# Altium integrated library Protel DOS Schematic Libraries.IntLib: 1273 symbols (part 1 of 9)
Pins are listed as number, name and electrical type; pins without a type are passive.

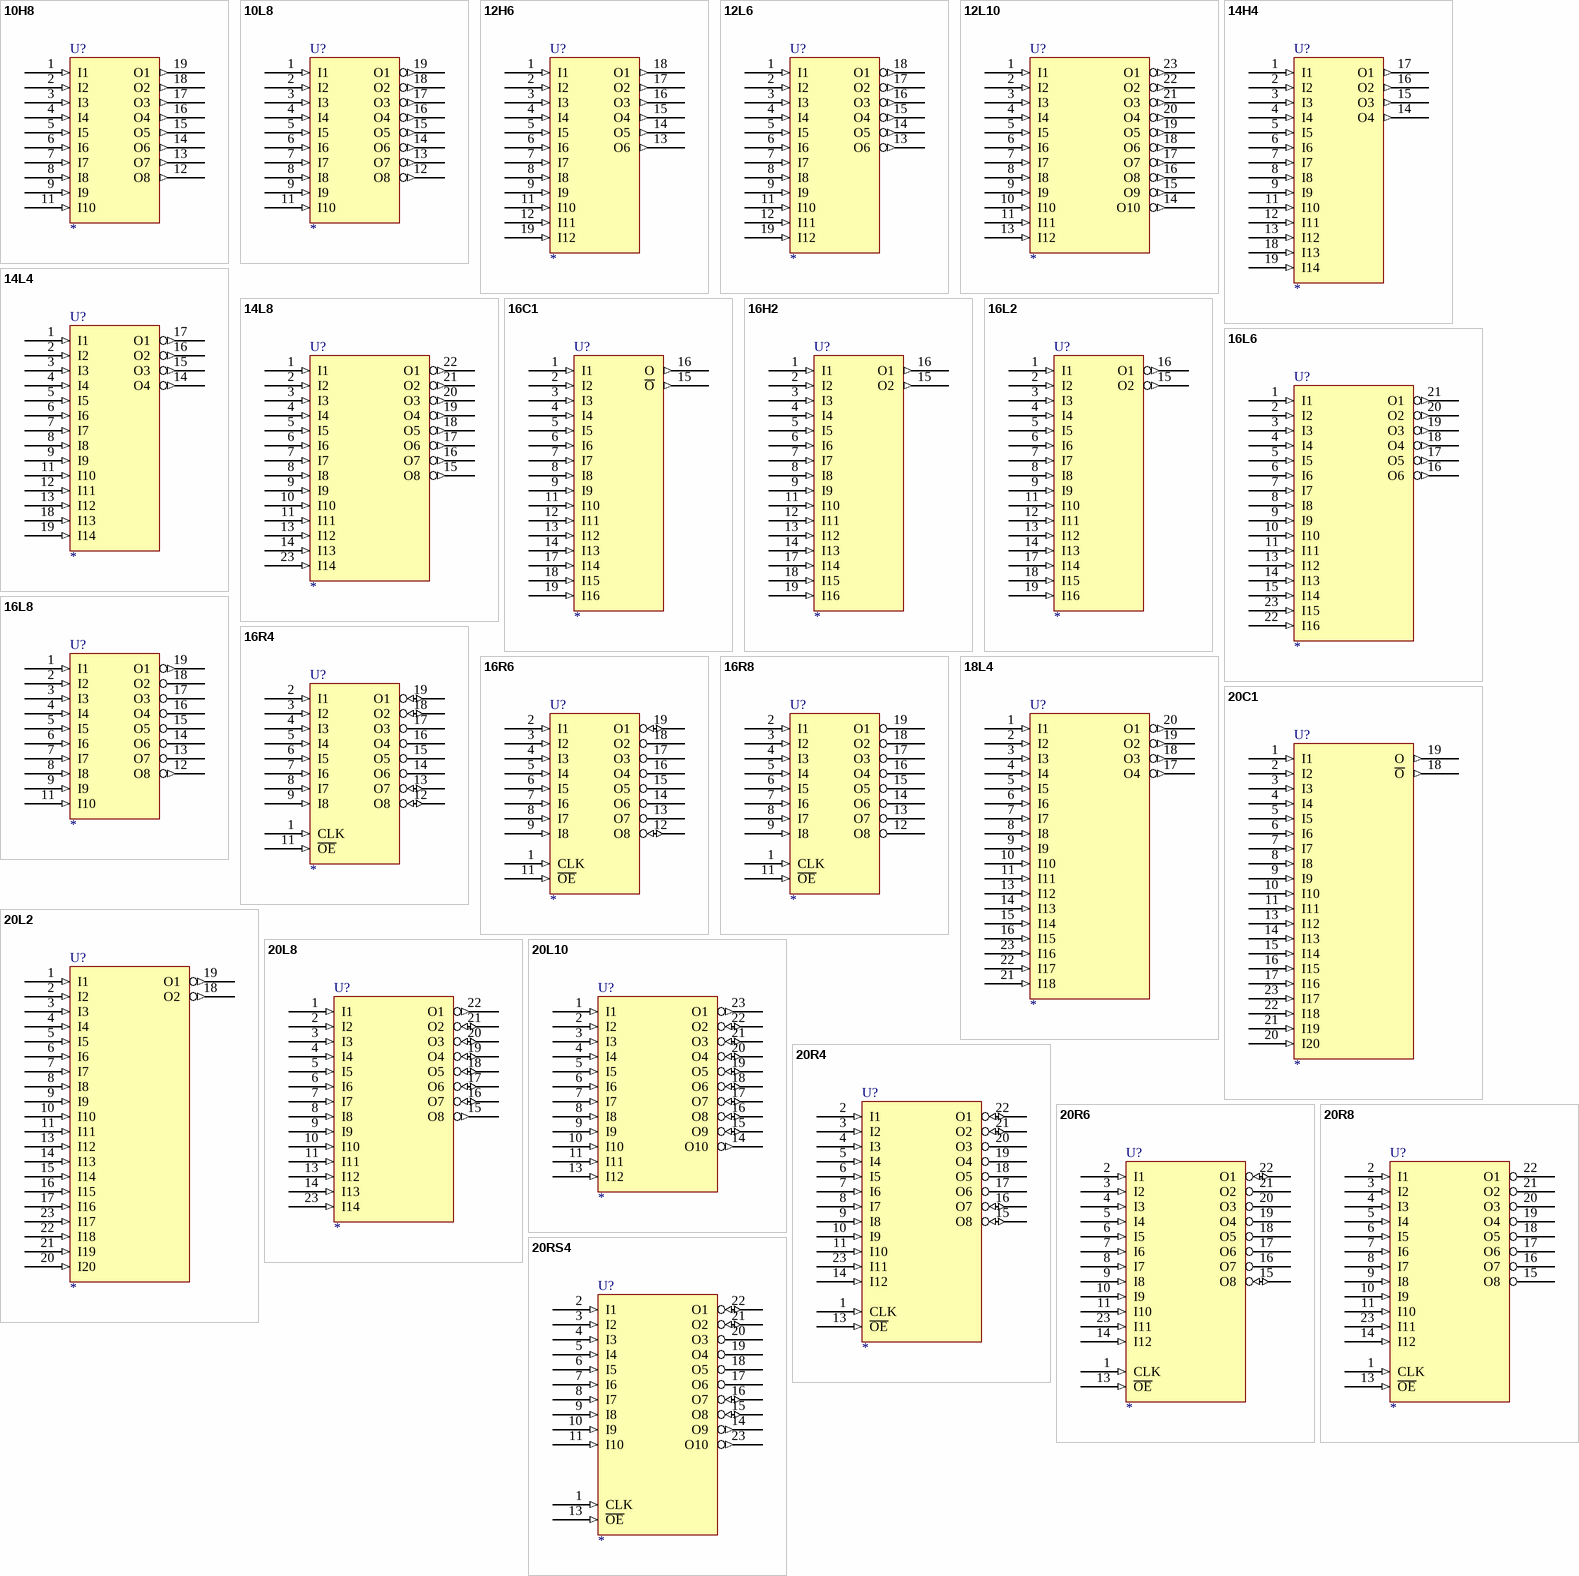
[diagram p0: symbols 10H8 to 20RS4]

## 10H8
designator U?
footprint DIP-20
pins: 1 I1 (in), 2 I2 (in), 3 I3 (in), 4 I4 (in), 5 I5 (in), 6 I6 (in), 7 I7 (in), 8 I8 (in), 9 I9 (in), 10 GND (power) hidden to GND, 11 I10 (in), 12 O8 (out), 13 O7 (out), 14 O6 (out), 15 O5 (out), 16 O4 (out), 17 O3 (out), 18 O2 (out), 19 O1 (out), 20 VCC (power) hidden to VCC

## 10L8
designator U?
footprint DIP-20
pins: 1 I1 (in), 2 I2 (in), 3 I3 (in), 4 I4 (in), 5 I5 (in), 6 I6 (in), 7 I7 (in), 8 I8 (in), 9 I9 (in), 10 GND (power) hidden to GND, 11 I10 (in), 12 O8 (out), 13 O7 (out), 14 O6 (out), 15 O5 (out), 16 O4 (out), 17 O3 (out), 18 O2 (out), 19 O1 (out), 20 VCC (power) hidden to VCC

## 12H6
designator U?
footprint DIP-20
pins: 1 I1 (in), 2 I2 (in), 3 I3 (in), 4 I4 (in), 5 I5 (in), 6 I6 (in), 7 I7 (in), 8 I8 (in), 9 I9 (in), 10 GND (power) hidden to GND, 11 I10 (in), 12 I11 (in), 13 O6 (out), 14 O5 (out), 15 O4 (out), 16 O3 (out), 17 O2 (out), 18 O1 (out), 19 I12 (in), 20 VCC (power) hidden to VCC

## 12L6
designator U?
footprint DIP-20
pins: 1 I1 (in), 2 I2 (in), 3 I3 (in), 4 I4 (in), 5 I5 (in), 6 I6 (in), 7 I7 (in), 8 I8 (in), 9 I9 (in), 10 GND (power) hidden to GND, 11 I10 (in), 12 I11 (in), 13 O6 (out), 14 O5 (out), 15 O4 (out), 16 O3 (out), 17 O2 (out), 18 O1 (out), 19 I12 (in), 20 VCC (power) hidden to VCC

## 12L10
designator U?
footprint DIP-24
pins: 1 I1 (in), 2 I2 (in), 3 I3 (in), 4 I4 (in), 5 I5 (in), 6 I6 (in), 7 I7 (in), 8 I8 (in), 9 I9 (in), 10 I10 (in), 11 I11 (in), 12 GND (power) hidden to GND, 13 I12 (in), 14 O10 (out), 15 O9 (out), 16 O8 (out), 17 O7 (out), 18 O6 (out), 19 O5 (out), 20 O4 (out), 21 O3 (out), 22 O2 (out), 23 O1 (out), 24 VCC (power) hidden to VCC

## 14H4
designator U?
footprint DIP-20
pins: 1 I1 (in), 2 I2 (in), 3 I3 (in), 4 I4 (in), 5 I5 (in), 6 I6 (in), 7 I7 (in), 8 I8 (in), 9 I9 (in), 10 GND (power) hidden to GND, 11 I10 (in), 12 I11 (in), 13 I12 (in), 14 O4 (out), 15 O3 (out), 16 O2 (out), 17 O1 (out), 18 I13 (in), 19 I14 (in), 20 VCC (power) hidden to VCC

## 14L4
designator U?
footprint DIP-20
pins: 1 I1 (in), 2 I2 (in), 3 I3 (in), 4 I4 (in), 5 I5 (in), 6 I6 (in), 7 I7 (in), 8 I8 (in), 9 I9 (in), 10 GND (power) hidden to GND, 11 I10 (in), 12 I11 (in), 13 I12 (in), 14 O4 (out), 15 O3 (out), 16 O2 (out), 17 O1 (out), 18 I13 (in), 19 I14 (in), 20 VCC (power) hidden to VCC

## 14L8
designator U?
footprint DIP-24
pins: 1 I1 (in), 2 I2 (in), 3 I3 (in), 4 I4 (in), 5 I5 (in), 6 I6 (in), 7 I7 (in), 8 I8 (in), 9 I9 (in), 10 I10 (in), 11 I11 (in), 12 GND (power) hidden to GND, 13 I12 (in), 14 I13 (in), 15 O8 (out), 16 O7 (out), 17 O6 (out), 18 O5 (out), 19 O4 (out), 20 O3 (out), 21 O2 (out), 22 O1 (out), 23 I14 (in), 24 VCC (power) hidden to VCC

## 16C1
designator U?
footprint DIP-20
pins: 1 I1 (in), 2 I2 (in), 3 I3 (in), 4 I4 (in), 5 I5 (in), 6 I6 (in), 7 I7 (in), 8 I8 (in), 9 I9 (in), 10 GND (power) hidden to GND, 11 I10 (in), 12 I11 (in), 13 I12 (in), 14 I13 (in), 15 ~{O} (out), 16 O (out), 17 I14 (in), 18 I15 (in), 19 I16 (in), 20 VCC (power) hidden to VCC

## 16H2
designator U?
footprint DIP-20
pins: 1 I1 (in), 2 I2 (in), 3 I3 (in), 4 I4 (in), 5 I5 (in), 6 I6 (in), 7 I7 (in), 8 I8 (in), 9 I9 (in), 10 GND (power) hidden to GND, 11 I10 (in), 12 I11 (in), 13 I12 (in), 14 I13 (in), 15 O2 (out), 16 O1 (out), 17 I14 (in), 18 I15 (in), 19 I16 (in), 20 VCC (power) hidden to VCC

## 16L2
designator U?
footprint DIP-20
pins: 1 I1 (in), 2 I2 (in), 3 I3 (in), 4 I4 (in), 5 I5 (in), 6 I6 (in), 7 I7 (in), 8 I8 (in), 9 I9 (in), 10 GND (power) hidden to GND, 11 I10 (in), 12 I11 (in), 13 I12 (in), 14 I13 (in), 15 O2 (out), 16 O1 (out), 17 I14 (in), 18 I15 (in), 19 I16 (in), 20 VCC (power) hidden to VCC

## 16L6
designator U?
footprint DIP-24
pins: 1 I1 (in), 2 I2 (in), 3 I3 (in), 4 I4 (in), 5 I5 (in), 6 I6 (in), 7 I7 (in), 8 I8 (in), 9 I9 (in), 10 I10 (in), 11 I11 (in), 12 GND (power) hidden to GND, 13 I12 (in), 14 I13 (in), 15 I14 (in), 16 O6 (out), 17 O5 (out), 18 O4 (out), 19 O3 (out), 20 O2 (out), 21 O1 (out), 22 I16 (in), 23 I15 (in), 24 VCC (power) hidden to VCC

## 16L8
designator U?
footprint DIP-20
pins: 1 I1 (in), 2 I2 (in), 3 I3 (in), 4 I4 (in), 5 I5 (in), 6 I6 (in), 7 I7 (in), 8 I8 (in), 9 I9 (in), 10 GND (power) hidden to GND, 11 I10 (in), 12 O8 (out), 13 O7 (hiz), 14 O6 (hiz), 15 O5 (hiz), 16 O4 (hiz), 17 O3 (hiz), 18 O2 (hiz), 19 O1 (out), 20 VCC (power) hidden to VCC

## 16R4
designator U?
footprint DIP-20
pins: 1 CLK (in), 2 I1 (in), 3 I2 (in), 4 I3 (in), 5 I4 (in), 6 I5 (in), 7 I6 (in), 8 I7 (in), 9 I8 (in), 10 GND (power) hidden to GND, 11 ~{OE} (in), 12 O8 (io), 13 O7 (io), 14 O6 (hiz), 15 O5 (hiz), 16 O4 (hiz), 17 O3 (hiz), 18 O2 (io), 19 O1 (io), 20 VCC (power) hidden to VCC

## 16R6
designator U?
footprint DIP-20
pins: 1 CLK (in), 2 I1 (in), 3 I2 (in), 4 I3 (in), 5 I4 (in), 6 I5 (in), 7 I6 (in), 8 I7 (in), 9 I8 (in), 10 GND (power) hidden to GND, 11 ~{OE} (in), 12 O8 (io), 13 O7 (hiz), 14 O6 (hiz), 15 O5 (hiz), 16 O4 (hiz), 17 O3 (hiz), 18 O2 (hiz), 19 O1 (io), 20 VCC (power) hidden to VCC

## 16R8
designator U?
footprint DIP-20
pins: 1 CLK (in), 2 I1 (in), 3 I2 (in), 4 I3 (in), 5 I4 (in), 6 I5 (in), 7 I6 (in), 8 I7 (in), 9 I8 (in), 10 GND (power) hidden to GND, 11 ~{OE} (in), 12 O8 (hiz), 13 O7 (hiz), 14 O6 (hiz), 15 O5 (hiz), 16 O4 (hiz), 17 O3 (hiz), 18 O2 (hiz), 19 O1 (hiz), 20 VCC (power) hidden to VCC

## 18L4
designator U?
footprint DIP-24
pins: 1 I1 (in), 2 I2 (in), 3 I3 (in), 4 I4 (in), 5 I5 (in), 6 I6 (in), 7 I7 (in), 8 I8 (in), 9 I9 (in), 10 I10 (in), 11 I11 (in), 12 GND (power) hidden to GND, 13 I12 (in), 14 I13 (in), 15 I14 (in), 16 I15 (in), 17 O4 (out), 18 O3 (out), 19 O2 (out), 20 O1 (out), 21 I18 (in), 22 I17 (in), 23 I16 (in), 24 VCC (power) hidden to VCC

## 20C1
designator U?
footprint DIP-24
pins: 1 I1 (in), 2 I2 (in), 3 I3 (in), 4 I4 (in), 5 I5 (in), 6 I6 (in), 7 I7 (in), 8 I8 (in), 9 I9 (in), 10 I10 (in), 11 I11 (in), 12 GND (power) hidden to GND, 13 I12 (in), 14 I13 (in), 15 I14 (in), 16 I15 (in), 17 I16 (in), 18 ~{O} (out), 19 O (out), 20 I20 (in), 21 I19 (in), 22 I18 (in), 23 I17 (in), 24 VCC (power) hidden to VCC

## 20L2
designator U?
footprint DIP-24
pins: 1 I1 (in), 2 I2 (in), 3 I3 (in), 4 I4 (in), 5 I5 (in), 6 I6 (in), 7 I7 (in), 8 I8 (in), 9 I9 (in), 10 I10 (in), 11 I11 (in), 12 GND (power) hidden to GND, 13 I12 (in), 14 I13 (in), 15 I14 (in), 16 I15 (in), 17 I16 (in), 18 O2 (out), 19 O1 (out), 20 I20 (in), 21 I19 (in), 22 I18 (in), 23 I17 (in), 24 VCC (power) hidden to VCC

## 20L8
designator U?
footprint DIP-24
pins: 1 I1 (in), 2 I2 (in), 3 I3 (in), 4 I4 (in), 5 I5 (in), 6 I6 (in), 7 I7 (in), 8 I8 (in), 9 I9 (in), 10 I10 (in), 11 I11 (in), 12 GND (power) hidden to GND, 13 I12 (in), 14 I13 (in), 15 O8 (out), 16 O7 (io), 17 O6 (io), 18 O5 (io), 19 O4 (io), 20 O3 (io), 21 O2 (io), 22 O1 (out), 23 I14 (in), 24 VCC (power) hidden to VCC

## 20L10
designator U?
footprint DIP-24
pins: 1 I1 (in), 2 I2 (in), 3 I3 (in), 4 I4 (in), 5 I5 (in), 6 I6 (in), 7 I7 (in), 8 I8 (in), 9 I9 (in), 10 I10 (in), 11 I11 (in), 12 GND (power) hidden to GND, 13 I12 (in), 14 O10 (out), 15 O9 (io), 16 O8 (io), 17 O7 (io), 18 O6 (io), 19 O5 (io), 20 O4 (io), 21 O3 (io), 22 O2 (io), 23 O1 (out), 24 VCC (power) hidden to VCC

## 20R4
designator U?
footprint DIP-24
pins: 1 CLK (in), 2 I1 (in), 3 I2 (in), 4 I3 (in), 5 I4 (in), 6 I5 (in), 7 I6 (in), 8 I7 (in), 9 I8 (in), 10 I9 (in), 11 I10 (in), 12 GND (power) hidden to GND, 13 ~{OE} (in), 14 I12 (in), 15 O8 (io), 16 O7 (io), 17 O6 (hiz), 18 O5 (hiz), 19 O4 (hiz), 20 O3 (hiz), 21 O2 (io), 22 O1 (io), 23 I11 (in), 24 VCC (power) hidden to VCC

## 20R6
designator U?
footprint DIP-24
pins: 1 CLK (in), 2 I1 (in), 3 I2 (in), 4 I3 (in), 5 I4 (in), 6 I5 (in), 7 I6 (in), 8 I7 (in), 9 I8 (in), 10 I9 (in), 11 I10 (in), 12 GND (power) hidden to GND, 13 ~{OE} (in), 14 I12 (in), 15 O8 (io), 16 O7 (hiz), 17 O6 (hiz), 18 O5 (hiz), 19 O4 (hiz), 20 O3 (hiz), 21 O2 (hiz), 22 O1 (io), 23 I11 (in), 24 VCC (power) hidden to VCC

## 20R8
designator U?
footprint DIP-24
pins: 1 CLK (in), 2 I1 (in), 3 I2 (in), 4 I3 (in), 5 I4 (in), 6 I5 (in), 7 I6 (in), 8 I7 (in), 9 I8 (in), 10 I9 (in), 11 I10 (in), 12 GND (power) hidden to GND, 13 ~{OE} (in), 14 I12 (in), 15 O8 (hiz), 16 O7 (hiz), 17 O6 (hiz), 18 O5 (hiz), 19 O4 (hiz), 20 O3 (hiz), 21 O2 (hiz), 22 O1 (hiz), 23 I11 (in), 24 VCC (power) hidden to VCC

## 20RS4
designator U?
footprint DIP-24
pins: 1 CLK (in), 2 I1 (in), 3 I2 (in), 4 I3 (in), 5 I4 (in), 6 I5 (in), 7 I6 (in), 8 I7 (in), 9 I8 (in), 10 I9 (in), 11 I10 (in), 12 GND (power) hidden to GND, 13 ~{OE} (in), 14 O9 (out), 15 O8 (io), 16 O7 (io), 17 O6 (hiz), 18 O5 (hiz), 19 O4 (hiz), 20 O3 (hiz), 21 O2 (io), 22 O1 (io), 23 O10 (out), 24 VCC (power) hidden to VCC

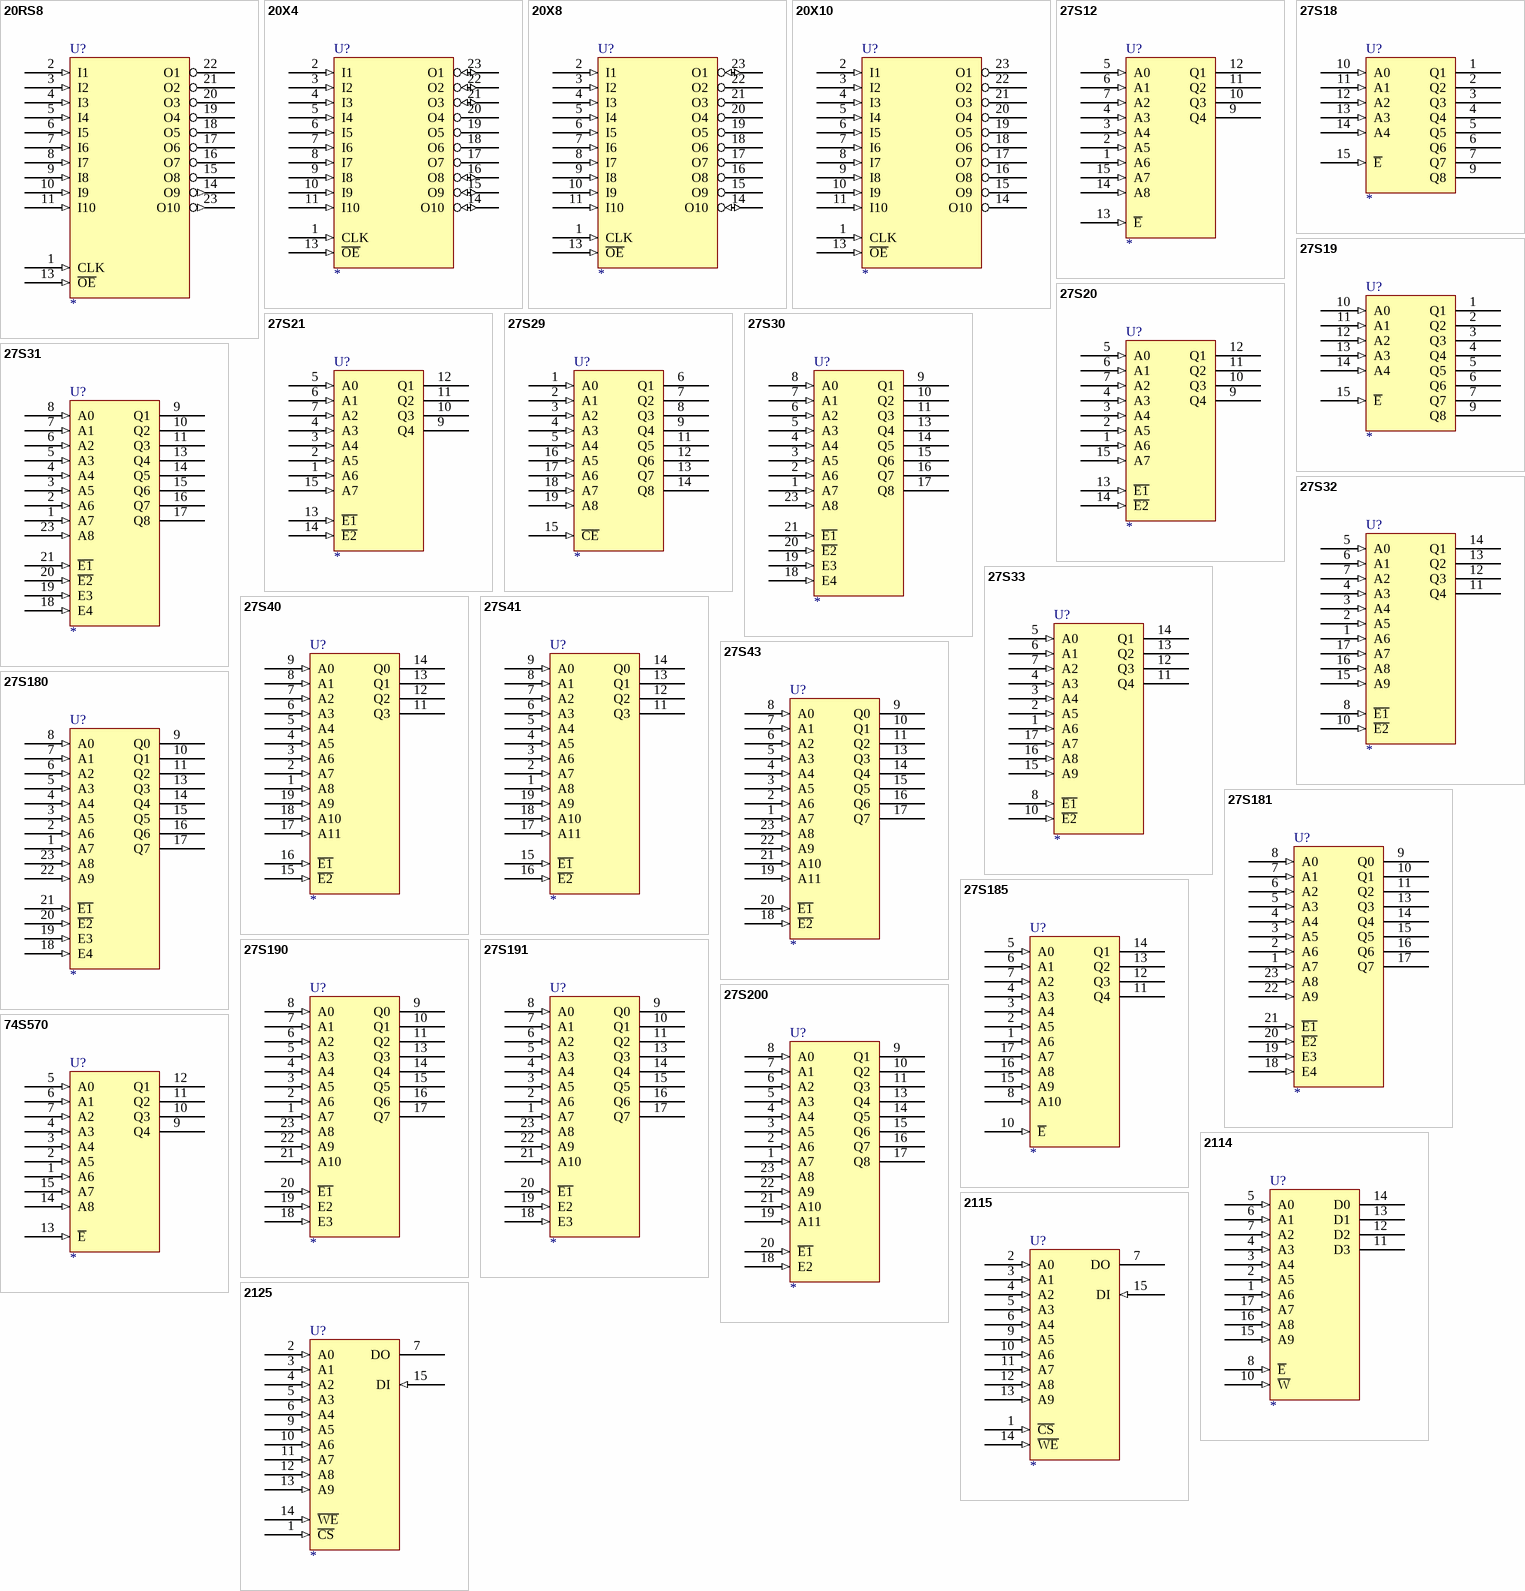
[diagram p1: symbols 20RS8 to 2125]

## 20RS8
designator U?
footprint DIP-24
pins: 1 CLK (in), 2 I1 (in), 3 I2 (in), 4 I3 (in), 5 I4 (in), 6 I5 (in), 7 I6 (in), 8 I7 (in), 9 I8 (in), 10 I9 (in), 11 I10 (in), 12 GND (power) hidden to GND, 13 ~{OE} (in), 14 O9 (out), 15 O8 (hiz), 16 O7 (hiz), 17 O6 (hiz), 18 O5 (hiz), 19 O4 (hiz), 20 O3 (hiz), 21 O2 (hiz), 22 O1 (hiz), 23 O10 (out), 24 VCC (power) hidden to VCC

## 20X4
designator U?
footprint DIP-24
pins: 1 CLK (in), 2 I1 (in), 3 I2 (in), 4 I3 (in), 5 I4 (in), 6 I5 (in), 7 I6 (in), 8 I7 (in), 9 I8 (in), 10 I9 (in), 11 I10 (in), 12 GND (power) hidden to GND, 13 ~{OE} (in), 14 O10 (io), 15 O9 (io), 16 O8 (io), 17 O7 (hiz), 18 O6 (hiz), 19 O5 (hiz), 20 O4 (hiz), 21 O3 (io), 22 O2 (io), 23 O1 (io), 24 VCC (power) hidden to VCC

## 20X8
designator U?
footprint DIP-24
pins: 1 CLK (in), 2 I1 (in), 3 I2 (in), 4 I3 (in), 5 I4 (in), 6 I5 (in), 7 I6 (in), 8 I7 (in), 9 I8 (in), 10 I9 (in), 11 I10 (in), 12 GND (power) hidden to GND, 13 ~{OE} (in), 14 O10 (io), 15 O9 (hiz), 16 O8 (hiz), 17 O7 (hiz), 18 O6 (hiz), 19 O5 (hiz), 20 O4 (hiz), 21 O3 (hiz), 22 O2 (hiz), 23 O1 (io), 24 VCC (power) hidden to VCC

## 20X10
designator U?
footprint DIP-24
pins: 1 CLK (in), 2 I1 (in), 3 I2 (in), 4 I3 (in), 5 I4 (in), 6 I5 (in), 7 I6 (in), 8 I7 (in), 9 I8 (in), 10 I9 (in), 11 I10 (in), 12 GND (power) hidden to GND, 13 ~{OE} (in), 14 O10 (hiz), 15 O9 (hiz), 16 O8 (hiz), 17 O7 (hiz), 18 O6 (hiz), 19 O5 (hiz), 20 O4 (hiz), 21 O3 (hiz), 22 O2 (hiz), 23 O1 (hiz), 24 VCC (power) hidden to VCC

## 27S12
designator U?
footprint DIP-16
pins: 1 A6 (in), 2 A5 (in), 3 A4 (in), 4 A3 (in), 5 A0 (in), 6 A1 (in), 7 A2 (in), 8 GND (power) hidden to GND, 9 Q4 (hiz), 10 Q3 (hiz), 11 Q2 (hiz), 12 Q1 (hiz), 13 ~{E} (in), 14 A8 (in), 15 A7 (in), 16 VCC (power) hidden to VCC

## 27S18
designator U?
footprint DIP-16
pins: 1 Q1 (oc), 2 Q2 (oc), 3 Q3 (oc), 4 Q4 (oc), 5 Q5 (oc), 6 Q6 (oc), 7 Q7 (oc), 8 GND (power) hidden to GND, 9 Q8 (oc), 10 A0 (in), 11 A1 (in), 12 A2 (in), 13 A3 (in), 14 A4 (in), 15 ~{E} (in), 16 VCC (power) hidden to VCC

## 27S19
designator U?
footprint DIP-16
pins: 1 Q1 (hiz), 2 Q2 (hiz), 3 Q3 (hiz), 4 Q4 (hiz), 5 Q5 (hiz), 6 Q6 (hiz), 7 Q7 (hiz), 8 GND (power) hidden to GND, 9 Q8 (hiz), 10 A0 (in), 11 A1 (in), 12 A2 (in), 13 A3 (in), 14 A4 (in), 15 ~{E} (in), 16 VCC (power) hidden to VCC

## 27S20
designator U?
footprint DIP-16
pins: 1 A6 (in), 2 A5 (in), 3 A4 (in), 4 A3 (in), 5 A0 (in), 6 A1 (in), 7 A2 (in), 8 GND (power) hidden to GND, 9 Q4 (oc), 10 Q3 (oc), 11 Q2 (oc), 12 Q1 (oc), 13 ~{E1} (in), 14 ~{E2} (in), 15 A7 (in), 16 VCC (power) hidden to VCC

## 27S21
designator U?
footprint DIP-16
pins: 1 A6 (in), 2 A5 (in), 3 A4 (in), 4 A3 (in), 5 A0 (in), 6 A1 (in), 7 A2 (in), 8 GND (power) hidden to GND, 9 Q4 (hiz), 10 Q3 (hiz), 11 Q2 (hiz), 12 Q1 (hiz), 13 ~{E1} (in), 14 ~{E2} (in), 15 A7 (in), 16 VCC (power) hidden to VCC

## 27S29
designator U?
footprint DIP-20
pins: 1 A0 (in), 2 A1 (in), 3 A2 (in), 4 A3 (in), 5 A4 (in), 6 Q1 (hiz), 7 Q2 (hiz), 8 Q3 (hiz), 9 Q4 (hiz), 10 GND (power) hidden to GND, 11 Q5 (hiz), 12 Q6 (hiz), 13 Q7 (hiz), 14 Q8 (hiz), 15 ~{CE} (in), 16 A5 (in), 17 A6 (in), 18 A7 (in), 19 A8 (in), 20 VCC (power) hidden to VCC

## 27S30
designator U?
footprint DIP-24
pins: 1 A7 (in), 2 A6 (in), 3 A5 (in), 4 A4 (in), 5 A3 (in), 6 A2 (in), 7 A1 (in), 8 A0 (in), 9 Q1 (oc), 10 Q2 (oc), 11 Q3 (oc), 12 GND (power) hidden to GND, 13 Q4 (oc), 14 Q5 (oc), 15 Q6 (oc), 16 Q7 (oc), 17 Q8 (oc), 18 E4 (in), 19 E3 (in), 20 ~{E2} (in), 21 ~{E1} (in), 23 A8 (in), 24 VCC (power) hidden to VCC

## 27S31
designator U?
footprint DIP-24
pins: 1 A7 (in), 2 A6 (in), 3 A5 (in), 4 A4 (in), 5 A3 (in), 6 A2 (in), 7 A1 (in), 8 A0 (in), 9 Q1 (hiz), 10 Q2 (hiz), 11 Q3 (hiz), 12 GND (power) hidden to GND, 13 Q4 (hiz), 14 Q5 (hiz), 15 Q6 (hiz), 16 Q7 (hiz), 17 Q8 (hiz), 18 E4 (in), 19 E3 (in), 20 ~{E2} (in), 21 ~{E1} (in), 23 A8 (in), 24 VCC (power) hidden to VCC

## 27S32
designator U?
footprint DIP-18
pins: 1 A6 (in), 2 A5 (in), 3 A4 (in), 4 A3 (in), 5 A0 (in), 6 A1 (in), 7 A2 (in), 8 ~{E1} (in), 9 GND (power) hidden to GND, 10 ~{E2} (in), 11 Q4 (oc), 12 Q3 (oc), 13 Q2 (oc), 14 Q1 (oc), 15 A9 (in), 16 A8 (in), 17 A7 (in), 18 VCC (power) hidden to VCC

## 27S33
designator U?
footprint DIP-18
pins: 1 A6 (in), 2 A5 (in), 3 A4 (in), 4 A3 (in), 5 A0 (in), 6 A1 (in), 7 A2 (in), 8 ~{E1} (in), 9 GND (power) hidden to GND, 10 ~{E2} (in), 11 Q4 (hiz), 12 Q3 (hiz), 13 Q2 (hiz), 14 Q1 (hiz), 15 A9 (in), 16 A8 (in), 17 A7 (in), 18 VCC (power) hidden to VCC

## 27S40
designator U?
footprint DIP-20
pins: 1 A8 (in), 2 A7 (in), 3 A6 (in), 4 A5 (in), 5 A4 (in), 6 A3 (in), 7 A2 (in), 8 A1 (in), 9 A0 (in), 10 GND (power) hidden to GND, 11 Q3 (oc), 12 Q2 (oc), 13 Q1 (oc), 14 Q0 (oc), 15 ~{E2} (in), 16 ~{E1} (in), 17 A11 (in), 18 A10 (in), 19 A9 (in), 20 VCC (power) hidden to VCC

## 27S41
designator U?
footprint DIP-20
pins: 1 A8 (in), 2 A7 (in), 3 A6 (in), 4 A5 (in), 5 A4 (in), 6 A3 (in), 7 A2 (in), 8 A1 (in), 9 A0 (in), 10 GND (power) hidden to GND, 11 Q3 (hiz), 12 Q2 (hiz), 13 Q1 (hiz), 14 Q0 (hiz), 15 ~{E1} (in), 16 ~{E2} (in), 17 A11 (in), 18 A10 (in), 19 A9 (in), 20 VCC (power) hidden to VCC

## 27S43
designator U?
footprint DIP-24
pins: 1 A7 (in), 2 A6 (in), 3 A5 (in), 4 A4 (in), 5 A3 (in), 6 A2 (in), 7 A1 (in), 8 A0 (in), 9 Q0 (hiz), 10 Q1 (hiz), 11 Q2 (hiz), 12 GND (power) hidden to GND, 13 Q3 (hiz), 14 Q4 (hiz), 15 Q5 (hiz), 16 Q6 (hiz), 17 Q7 (hiz), 18 ~{E2} (in), 19 A11 (in), 20 ~{E1} (in), 21 A10 (in), 22 A9 (in), 23 A8 (in), 24 VCC (power) hidden to VCC

## 27S180
designator U?
footprint DIP-24
pins: 1 A7 (in), 2 A6 (in), 3 A5 (in), 4 A4 (in), 5 A3 (in), 6 A2 (in), 7 A1 (in), 8 A0 (in), 9 Q0 (oc), 10 Q1 (oc), 11 Q2 (oc), 12 GND (power) hidden to GND, 13 Q3 (oc), 14 Q4 (oc), 15 Q5 (oc), 16 Q6 (oc), 17 Q7 (oc), 18 E4 (in), 19 E3 (in), 20 ~{E2} (in), 21 ~{E1} (in), 22 A9 (in), 23 A8 (in), 24 VCC (power) hidden to VCC

## 27S181
designator U?
footprint DIP-24
pins: 1 A7 (in), 2 A6 (in), 3 A5 (in), 4 A4 (in), 5 A3 (in), 6 A2 (in), 7 A1 (in), 8 A0 (in), 9 Q0 (hiz), 10 Q1 (hiz), 11 Q2 (hiz), 12 GND (power) hidden to GND, 13 Q3 (hiz), 14 Q4 (hiz), 15 Q5 (hiz), 16 Q6 (hiz), 17 Q7 (hiz), 18 E4 (in), 19 E3 (in), 20 ~{E2} (in), 21 ~{E1} (in), 22 A9 (in), 23 A8 (in), 24 VCC (power) hidden to VCC

## 27S185
designator U?
footprint DIP-18
pins: 1 A6 (in), 2 A5 (in), 3 A4 (in), 4 A3 (in), 5 A0 (in), 6 A1 (in), 7 A2 (in), 8 A10 (in), 9 GND (power) hidden to GND, 10 ~{E} (in), 11 Q4 (hiz), 12 Q3 (hiz), 13 Q2 (hiz), 14 Q1 (hiz), 15 A9 (in), 16 A8 (in), 17 A7 (in), 18 VCC (power) hidden to VCC

## 27S190
designator U?
footprint DIP-24
pins: 1 A7 (in), 2 A6 (in), 3 A5 (in), 4 A4 (in), 5 A3 (in), 6 A2 (in), 7 A1 (in), 8 A0 (in), 9 Q0 (oc), 10 Q1 (oc), 11 Q2 (oc), 12 GND (power) hidden to GND, 13 Q3 (oc), 14 Q4 (oc), 15 Q5 (oc), 16 Q6 (oc), 17 Q7 (oc), 18 E3 (in), 19 E2 (in), 20 ~{E1} (in), 21 A10 (in), 22 A9 (in), 23 A8 (in), 24 VCC (power) hidden to VCC

## 27S191
designator U?
footprint DIP-24
pins: 1 A7 (in), 2 A6 (in), 3 A5 (in), 4 A4 (in), 5 A3 (in), 6 A2 (in), 7 A1 (in), 8 A0 (in), 9 Q0 (hiz), 10 Q1 (hiz), 11 Q2 (hiz), 12 GND (power) hidden to GND, 13 Q3 (hiz), 14 Q4 (hiz), 15 Q5 (hiz), 16 Q6 (hiz), 17 Q7 (hiz), 18 E3 (in), 19 E2 (in), 20 ~{E1} (in), 21 A10 (in), 22 A9 (in), 23 A8 (in), 24 VCC (power) hidden to VCC

## 27S200
designator U?
footprint DIP-24
pins: 1 A7 (in), 2 A6 (in), 3 A5 (in), 4 A4 (in), 5 A3 (in), 6 A2 (in), 7 A1 (in), 8 A0 (in), 9 Q1 (hiz), 10 Q2 (hiz), 11 Q3 (hiz), 12 GND (power) hidden to GND, 13 Q4 (hiz), 14 Q5 (hiz), 15 Q6 (hiz), 16 Q7 (hiz), 17 Q8 (hiz), 18 E2 (in), 19 A11 (in), 20 ~{E1} (in), 21 A10 (in), 22 A9 (in), 23 A8 (in), 24 VCC (power) hidden to VCC

## 74S570
designator U?
footprint DIP-16
pins: 1 A6 (in), 2 A5 (in), 3 A4 (in), 4 A3 (in), 5 A0 (in), 6 A1 (in), 7 A2 (in), 8 GND (power) hidden to GND, 9 Q4 (oc), 10 Q3 (oc), 11 Q2 (oc), 12 Q1 (oc), 13 ~{E} (in), 14 A8 (in), 15 A7 (in), 16 VCC (power) hidden to VCC

## 2114
designator U?
footprint DIP-18
pins: 1 A6 (in), 2 A5 (in), 3 A4 (in), 4 A3 (in), 5 A0 (in), 6 A1 (in), 7 A2 (in), 8 ~{E} (in), 9 GND (power) hidden to GND, 10 ~{W} (in), 11 D3 (hiz), 12 D2 (hiz), 13 D1 (hiz), 14 D0 (hiz), 15 A9 (in), 16 A8 (in), 17 A7 (in), 18 VCC (power) hidden to VCC

## 2115
designator U?
footprint DIP-16
pins: 1 ~{CS} (in), 2 A0 (in), 3 A1 (in), 4 A2 (in), 5 A3 (in), 6 A4 (in), 7 DO (oc), 8 GND (power) hidden to GND, 9 A5 (in), 10 A6 (in), 11 A7 (in), 12 A8 (in), 13 A9 (in), 14 ~{WE} (in), 15 DI (in), 16 VCC (power) hidden to VCC

## 2125
designator U?
footprint DIP-16
pins: 1 ~{CS} (in), 2 A0 (in), 3 A1 (in), 4 A2 (in), 5 A3 (in), 6 A4 (in), 7 DO (hiz), 8 GND (power) hidden to GND, 9 A5 (in), 10 A6 (in), 11 A7 (in), 12 A8 (in), 13 A9 (in), 14 ~{WE} (in), 15 DI (in), 16 VCC (power) hidden to VCC

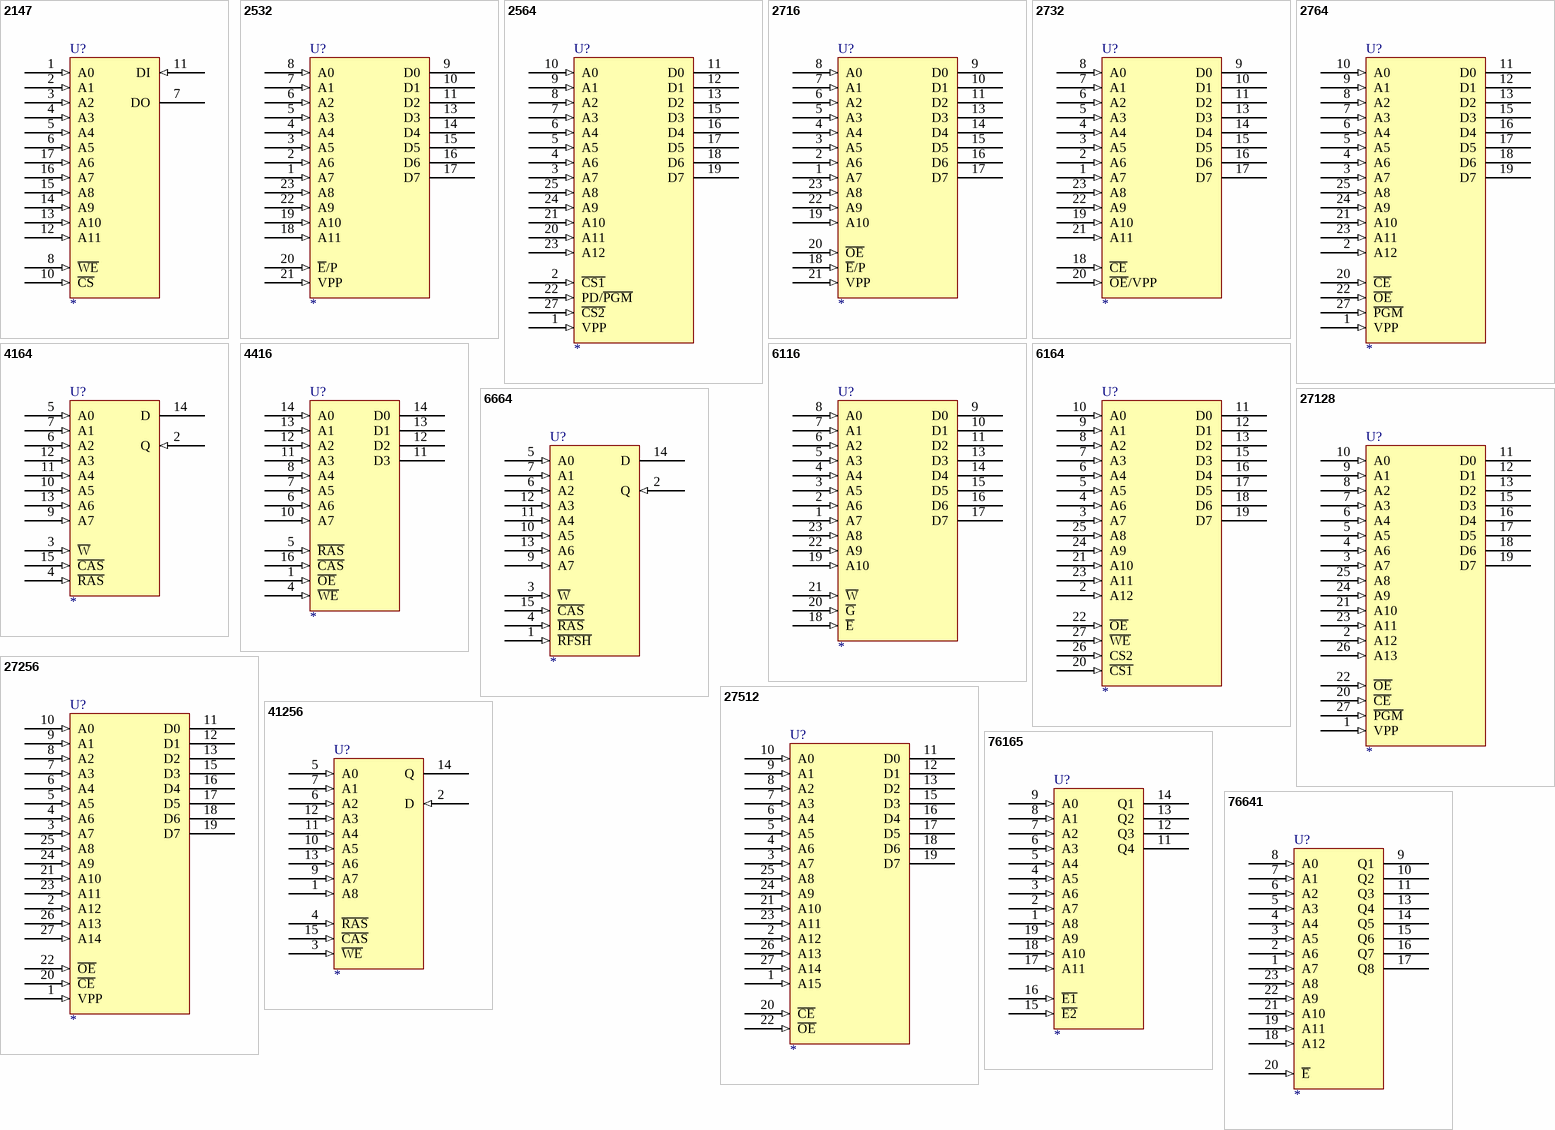
[diagram p2: symbols 2147 to 76641]

## 2147
designator U?
footprint DIP-18
pins: 1 A0 (in), 2 A1 (in), 3 A2 (in), 4 A3 (in), 5 A4 (in), 6 A5 (in), 7 DO (hiz), 8 ~{WE} (in), 9 GND (power) hidden to GND, 10 ~{CS} (in), 11 DI (in), 12 A11 (in), 13 A10 (in), 14 A9 (in), 15 A8 (in), 16 A7 (in), 17 A6 (in), 18 VCC (power) hidden to VCC

## 2532
designator U?
footprint DIP-24
pins: 1 A7 (in), 2 A6 (in), 3 A5 (in), 4 A4 (in), 5 A3 (in), 6 A2 (in), 7 A1 (in), 8 A0 (in), 9 D0 (hiz), 10 D1 (hiz), 11 D2 (hiz), 12 GND (power) hidden to GND, 13 D3 (hiz), 14 D4 (hiz), 15 D5 (hiz), 16 D6 (hiz), 17 D7 (hiz), 18 A11 (in), 19 A10 (in), 20 ~{E}/P (in), 21 VPP (in), 22 A9 (in), 23 A8 (in), 24 VCC (power) hidden to VCC

## 2564
designator U?
footprint DIP-24
pins: 1 VPP (in), 2 ~{CS1} (in), 3 A7 (in), 4 A6 (in), 5 A5 (in), 6 A4 (in), 7 A3 (in), 8 A2 (in), 9 A1 (in), 10 A0 (in), 11 D0 (hiz), 12 D1 (hiz), 13 D2 (hiz), 14 GND (power) hidden to GND, 15 D3 (hiz), 16 D4 (hiz), 17 D5 (hiz), 18 D6 (hiz), 19 D7 (hiz), 20 A11 (in), 21 A10 (in), 22 PD/~{PGM} (in), 23 A12 (in), 24 A9 (in), 25 A8 (in), 27 ~{CS2} (in), 28 VCC (power) hidden to VCC

## 2716
designator U?
footprint DIP-24
pins: 1 A7 (in), 2 A6 (in), 3 A5 (in), 4 A4 (in), 5 A3 (in), 6 A2 (in), 7 A1 (in), 8 A0 (in), 9 D0 (hiz), 10 D1 (hiz), 11 D2 (hiz), 12 GND (power) hidden to GND, 13 D3 (hiz), 14 D4 (hiz), 15 D5 (hiz), 16 D6 (hiz), 17 D7 (hiz), 18 ~{E}/P (in), 19 A10 (in), 20 ~{OE} (in), 21 VPP (in), 22 A9 (in), 23 A8 (in), 24 VCC (power) hidden to VCC

## 2732
designator U?
footprint DIP-24
pins: 1 A7 (in), 2 A6 (in), 3 A5 (in), 4 A4 (in), 5 A3 (in), 6 A2 (in), 7 A1 (in), 8 A0 (in), 9 D0 (hiz), 10 D1 (hiz), 11 D2 (hiz), 12 GND (power) hidden to GND, 13 D3 (hiz), 14 D4 (hiz), 15 D5 (hiz), 16 D6 (hiz), 17 D7 (hiz), 18 ~{CE} (in), 19 A10 (in), 20 ~{OE}/VPP (in), 21 A11 (in), 22 A9 (in), 23 A8 (in), 24 VCC (power) hidden to VCC

## 2764
designator U?
footprint DIP-28
pins: 1 VPP (in), 2 A12 (in), 3 A7 (in), 4 A6 (in), 5 A5 (in), 6 A4 (in), 7 A3 (in), 8 A2 (in), 9 A1 (in), 10 A0 (in), 11 D0 (hiz), 12 D1 (hiz), 13 D2 (hiz), 14 GND (power) hidden to GND, 15 D3 (hiz), 16 D4 (hiz), 17 D5 (hiz), 18 D6 (hiz), 19 D7 (hiz), 20 ~{CE} (in), 21 A10 (in), 22 ~{OE} (in), 23 A11 (in), 24 A9 (in), 25 A8 (in), 27 ~{PGM} (in), 28 VCC (power) hidden to VCC

## 4164
designator U?
footprint DIP-16
pins: 2 Q (in), 3 ~{W} (in), 4 ~{RAS} (in), 5 A0 (in), 6 A2 (in), 7 A1 (in), 8 VCC (power) hidden to VCC, 9 A7 (in), 10 A5 (in), 11 A4 (in), 12 A3 (in), 13 A6 (in), 14 D (hiz), 15 ~{CAS} (in), 16 GND (power) hidden to GND

## 4416
designator U?
footprint DIP-18
pins: 1 ~{OE} (in), 4 ~{WE} (in), 5 ~{RAS} (in), 6 A6 (in), 7 A5 (in), 8 A4 (in), 9 VCC (power) hidden to VCC, 10 A7 (in), 11 A3 (in), 11 D3 (hiz), 12 A2 (in), 12 D2 (hiz), 13 A1 (in), 13 D1 (hiz), 14 A0 (in), 14 D0 (hiz), 16 ~{CAS} (in), 18 GND (power) hidden to GND

## 6116
designator U?
footprint DIP-24
pins: 1 A7 (in), 2 A6 (in), 3 A5 (in), 4 A4 (in), 5 A3 (in), 6 A2 (in), 7 A1 (in), 8 A0 (in), 9 D0 (hiz), 10 D1 (hiz), 11 D2 (hiz), 12 GND (power) hidden to GND, 13 D3 (hiz), 14 D4 (hiz), 15 D5 (hiz), 16 D6 (hiz), 17 D7 (hiz), 18 ~{E} (in), 19 A10 (in), 20 ~{G} (in), 21 ~{W} (in), 22 A9 (in), 23 A8 (in), 24 VCC (power) hidden to VCC

## 6164
designator U?
footprint DIP-28
pins: 2 A12 (in), 3 A7 (in), 4 A6 (in), 5 A5 (in), 6 A4 (in), 7 A3 (in), 8 A2 (in), 9 A1 (in), 10 A0 (in), 11 D0 (hiz), 12 D1 (hiz), 13 D2 (hiz), 14 GND (power) hidden to GND, 15 D3 (hiz), 16 D4 (hiz), 17 D5 (hiz), 18 D6 (hiz), 19 D7 (hiz), 20 ~{CS1} (in), 21 A10 (in), 22 ~{OE} (in), 23 A11 (in), 24 A9 (in), 25 A8 (in), 26 CS2 (in), 27 ~{WE} (in), 28 VCC (power) hidden to VCC

## 6664
designator U?
footprint DIP-16
pins: 1 ~{RFSH} (in), 2 Q (in), 3 ~{W} (in), 4 ~{RAS} (in), 5 A0 (in), 6 A2 (in), 7 A1 (in), 8 VCC (power) hidden to VCC, 9 A7 (in), 10 A5 (in), 11 A4 (in), 12 A3 (in), 13 A6 (in), 14 D (hiz), 15 ~{CAS} (in), 16 GND (power) hidden to GND

## 27128
designator U?
footprint DIP-28
pins: 1 VPP (in), 2 A12 (in), 3 A7 (in), 4 A6 (in), 5 A5 (in), 6 A4 (in), 7 A3 (in), 8 A2 (in), 9 A1 (in), 10 A0 (in), 11 D0 (hiz), 12 D1 (hiz), 13 D2 (hiz), 14 GND (power) hidden to GND, 15 D3 (hiz), 16 D4 (hiz), 17 D5 (hiz), 18 D6 (hiz), 19 D7 (hiz), 20 ~{CE} (in), 21 A10 (in), 22 ~{OE} (in), 23 A11 (in), 24 A9 (in), 25 A8 (in), 26 A13 (in), 27 ~{PGM} (in), 28 VCC (power) hidden to VCC

## 27256
designator U?
footprint DIP-28
pins: 1 VPP (in), 2 A12 (in), 3 A7 (in), 4 A6 (in), 5 A5 (in), 6 A4 (in), 7 A3 (in), 8 A2 (in), 9 A1 (in), 10 A0 (in), 11 D0 (hiz), 12 D1 (hiz), 13 D2 (hiz), 14 GND (power) hidden to GND, 15 D3 (hiz), 16 D4 (hiz), 17 D5 (hiz), 18 D6 (hiz), 19 D7 (hiz), 20 ~{CE} (in), 21 A10 (in), 22 ~{OE} (in), 23 A11 (in), 24 A9 (in), 25 A8 (in), 26 A13 (in), 27 A14 (in), 28 VCC (power) hidden to VCC

## 27512
designator U?
footprint DIP-28
pins: 1 A15 (in), 2 A12 (in), 3 A7 (in), 4 A6 (in), 5 A5 (in), 6 A4 (in), 7 A3 (in), 8 A2 (in), 9 A1 (in), 10 A0 (in), 11 D0 (hiz), 12 D1 (hiz), 13 D2 (hiz), 14 GND (power) hidden to GND, 15 D3 (hiz), 16 D4 (hiz), 17 D5 (hiz), 18 D6 (hiz), 19 D7 (hiz), 20 ~{CE} (in), 21 A10 (in), 22 ~{OE} (in), 23 A11 (in), 24 A9 (in), 25 A8 (in), 26 A13 (in), 27 A14 (in), 28 VCC (power) hidden to VCC

## 41256
designator U?
footprint DIP-16
pins: 1 A8 (in), 2 D (in), 3 ~{WE} (in), 4 ~{RAS} (in), 5 A0 (in), 6 A2 (in), 7 A1 (in), 8 VCC (power) hidden to VCC, 9 A7 (in), 10 A5 (in), 11 A4 (in), 12 A3 (in), 13 A6 (in), 14 Q (hiz), 15 ~{CAS} (in), 16 GND (power) hidden to GND

## 76165
designator U?
footprint DIP-20
pins: 1 A8 (in), 2 A7 (in), 3 A6 (in), 4 A5 (in), 5 A4 (in), 6 A3 (in), 7 A2 (in), 8 A1 (in), 9 A0 (in), 10 GND (power) hidden to GND, 11 Q4 (hiz), 12 Q3 (hiz), 13 Q2 (hiz), 14 Q1 (hiz), 15 ~{E2} (in), 16 ~{E1} (in), 17 A11 (in), 18 A10 (in), 19 A9 (in), 20 VCC (power) hidden to VCC

## 76641
designator U?
footprint DIP-24
pins: 1 A7 (in), 2 A6 (in), 3 A5 (in), 4 A4 (in), 5 A3 (in), 6 A2 (in), 7 A1 (in), 8 A0 (in), 9 Q1 (hiz), 10 Q2 (hiz), 11 Q3 (hiz), 12 GND (power) hidden to GND, 13 Q4 (hiz), 14 Q5 (hiz), 15 Q6 (hiz), 16 Q7 (hiz), 17 Q8 (hiz), 18 A12 (in), 19 A11 (in), 20 ~{E} (in), 21 A10 (in), 22 A9 (in), 23 A8 (in), 24 VCC (power) hidden to VCC


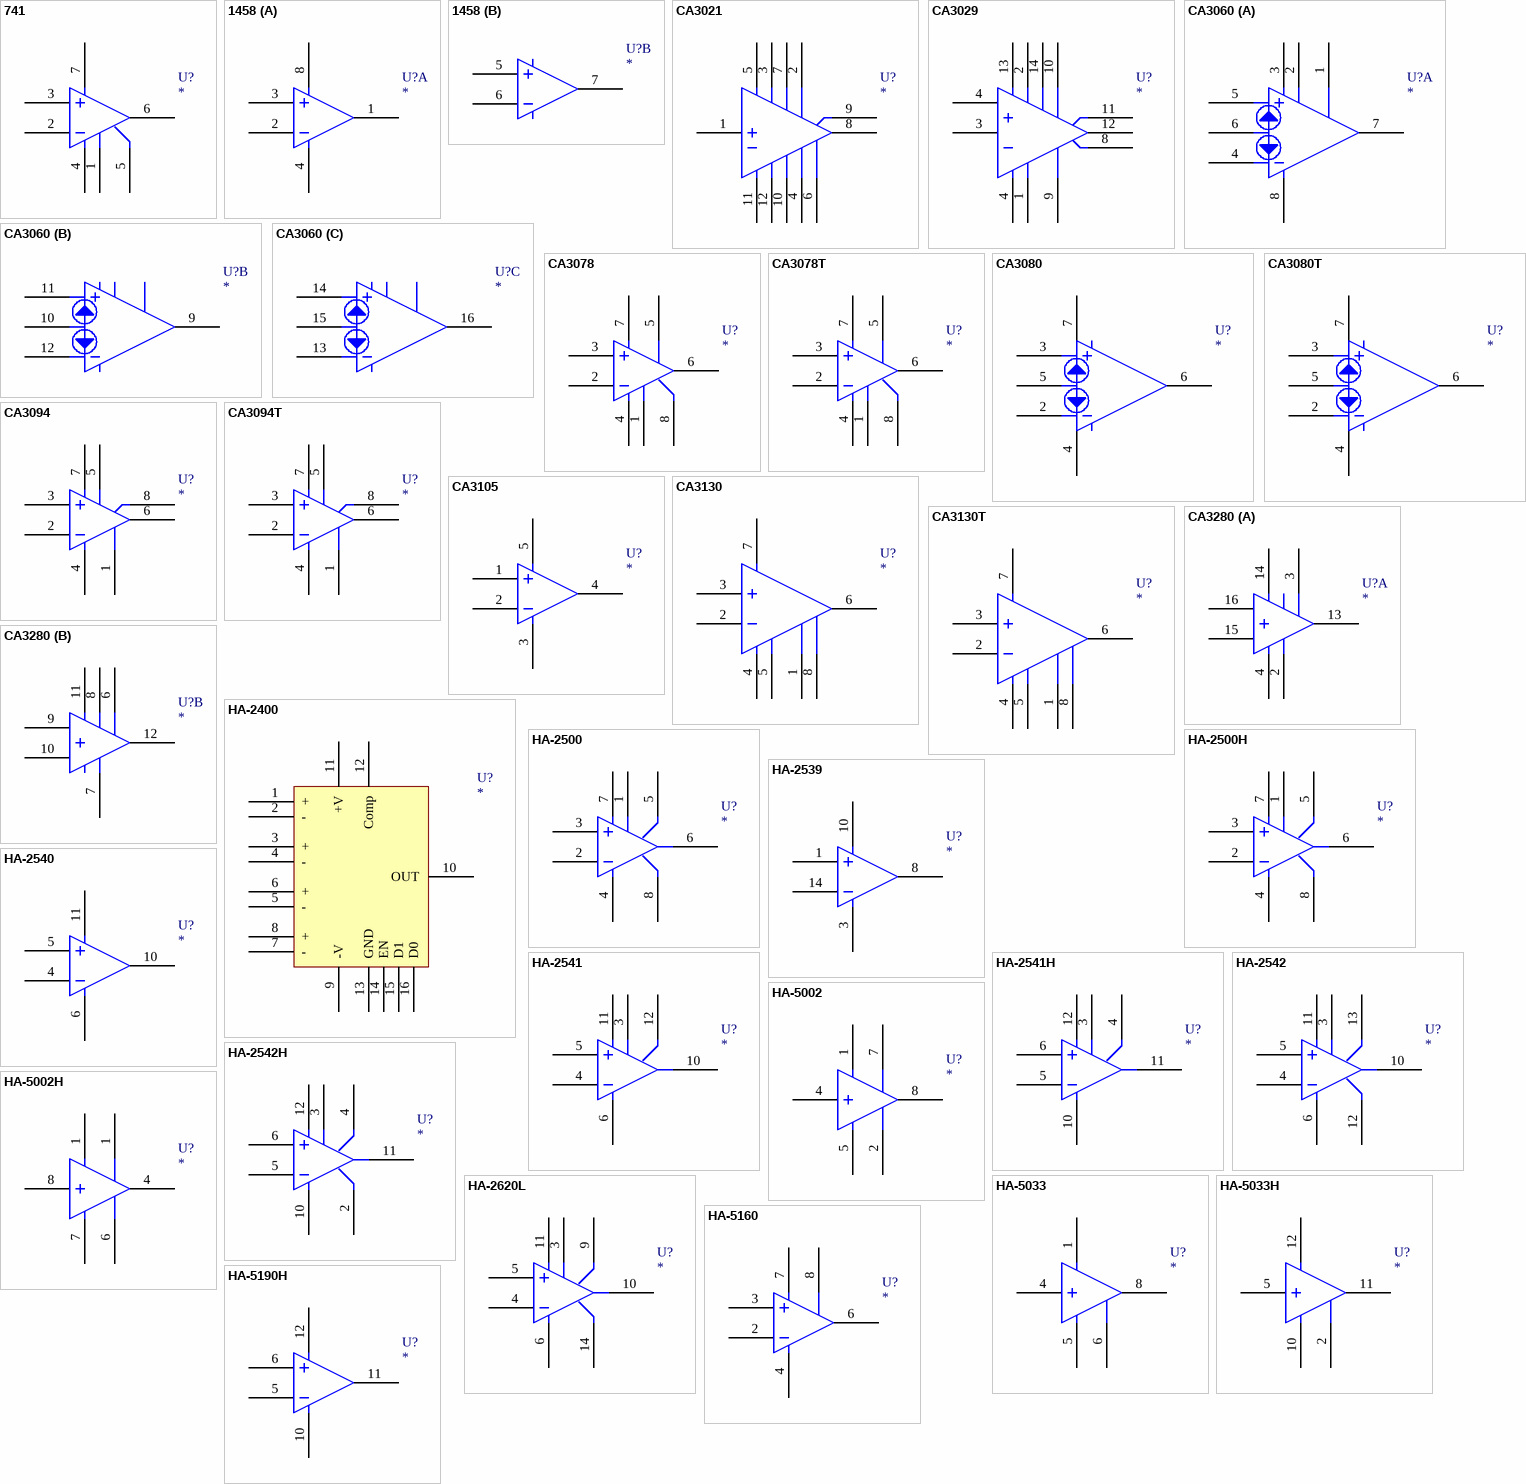
[diagram p3: symbols 741 to HA-5190H]

## 741
designator U?
footprint DIP-8
pins: 1, 2, 3, 4, 5, 6, 7

## 1458
designator U?
footprint DIP-8
part A pins: 1, 2, 3, 4, 8
part B pins: 5, 6, 7

## CA3021
designator U?
footprint METAL12
pins: 1, 2, 3, 4, 5, 6, 7, 8, 9, 10, 11, 12

## CA3029
designator U?
footprint DIP-14
pins: 1, 2, 3, 4, 4, 8, 9, 10, 11, 12, 13, 14

## CA3060
designator U?
footprint DIP-16
part A pins: 1, 2, 3, 4, 5, 6, 7, 8
part B pins: 9, 10, 11, 12
part C pins: 13, 14, 15, 16

## CA3078
designator U?
footprint DIP-8
pins: 1, 2, 3, 4, 5, 6, 7, 8

## CA3078T
designator U?
footprint METAL8
pins: 1, 2, 3, 4, 5, 6, 7, 8

## CA3080
designator U?
footprint DIP-8
pins: 2, 3, 4, 5, 6, 7

## CA3080T
designator U?
footprint METAL8
pins: 2, 3, 4, 5, 6, 7

## CA3094
designator U?
footprint DIP-8
pins: 1, 2, 3, 4, 5, 6, 7, 8

## CA3094T
designator U?
footprint METAL8
pins: 1, 2, 3, 4, 5, 6, 7, 8

## CA3105
designator U?
footprint TO-220-5S
pins: 1, 2, 3, 4, 5

## CA3130
designator U?
footprint DIP-8
pins: 1, 2, 3, 4, 5, 6, 7, 8

## CA3130T
designator U?
footprint METAL8
pins: 1, 2, 3, 4, 5, 6, 7, 8

## CA3280
designator U?
footprint DIP-16
part A pins: 1, 2, 3, 4, 13, 14, 15, 16
part B pins: 6, 7, 8, 9, 10, 11, 12

## HA-2400
designator U?
footprint DIP-16
pins: 1 +, 2 -, 3 +, 4 -, 5 -, 6 +, 7 -, 8 +, 9 -V, 10 OUT, 11 +V, 12 Comp, 13 GND, 14 EN, 15 D1, 16 D0

## HA-2500
designator U?
footprint DIP-8
pins: 1, 2, 3, 4, 5, 6, 7, 8

## HA-2500H
designator U?
footprint METAL8
pins: 1, 2, 3, 4, 5, 6, 7, 8

## HA-2539
designator U?
footprint DIP-14
pins: 1, 3, 8, 10, 14

## HA-2540
designator U?
footprint DIP-14
pins: 4, 5, 6, 10, 11

## HA-2541
designator U?
footprint DIP-14
pins: 3, 4, 5, 6, 10, 11, 12

## HA-2541H
designator U?
footprint METAL12
pins: 3, 4, 5, 6, 10, 11, 12

## HA-2542
designator U?
footprint DIP-14
pins: 3, 4, 5, 6, 10, 11, 12, 13

## HA-2542H
designator U?
footprint METAL12
pins: 2, 3, 4, 5, 6, 10, 11, 12

## HA-2620L
designator U?
footprint DIP-14
pins: 3, 4, 5, 6, 9, 10, 11, 14

## HA-5002
designator U?
footprint DIP-8
pins: 1, 2, 4, 5, 7, 8

## HA-5002H
designator U?
footprint METAL8
pins: 1, 1, 4, 6, 7, 8

## HA-5033
designator U?
footprint DIP-8
pins: 1, 4, 5, 6, 8

## HA-5033H
designator U?
footprint METAL12
pins: 2, 5, 10, 11, 12

## HA-5160
designator U?
footprint METAL8
pins: 2, 3, 4, 6, 7, 8

## HA-5190H
designator U?
footprint METAL12
pins: 5, 6, 10, 11, 12

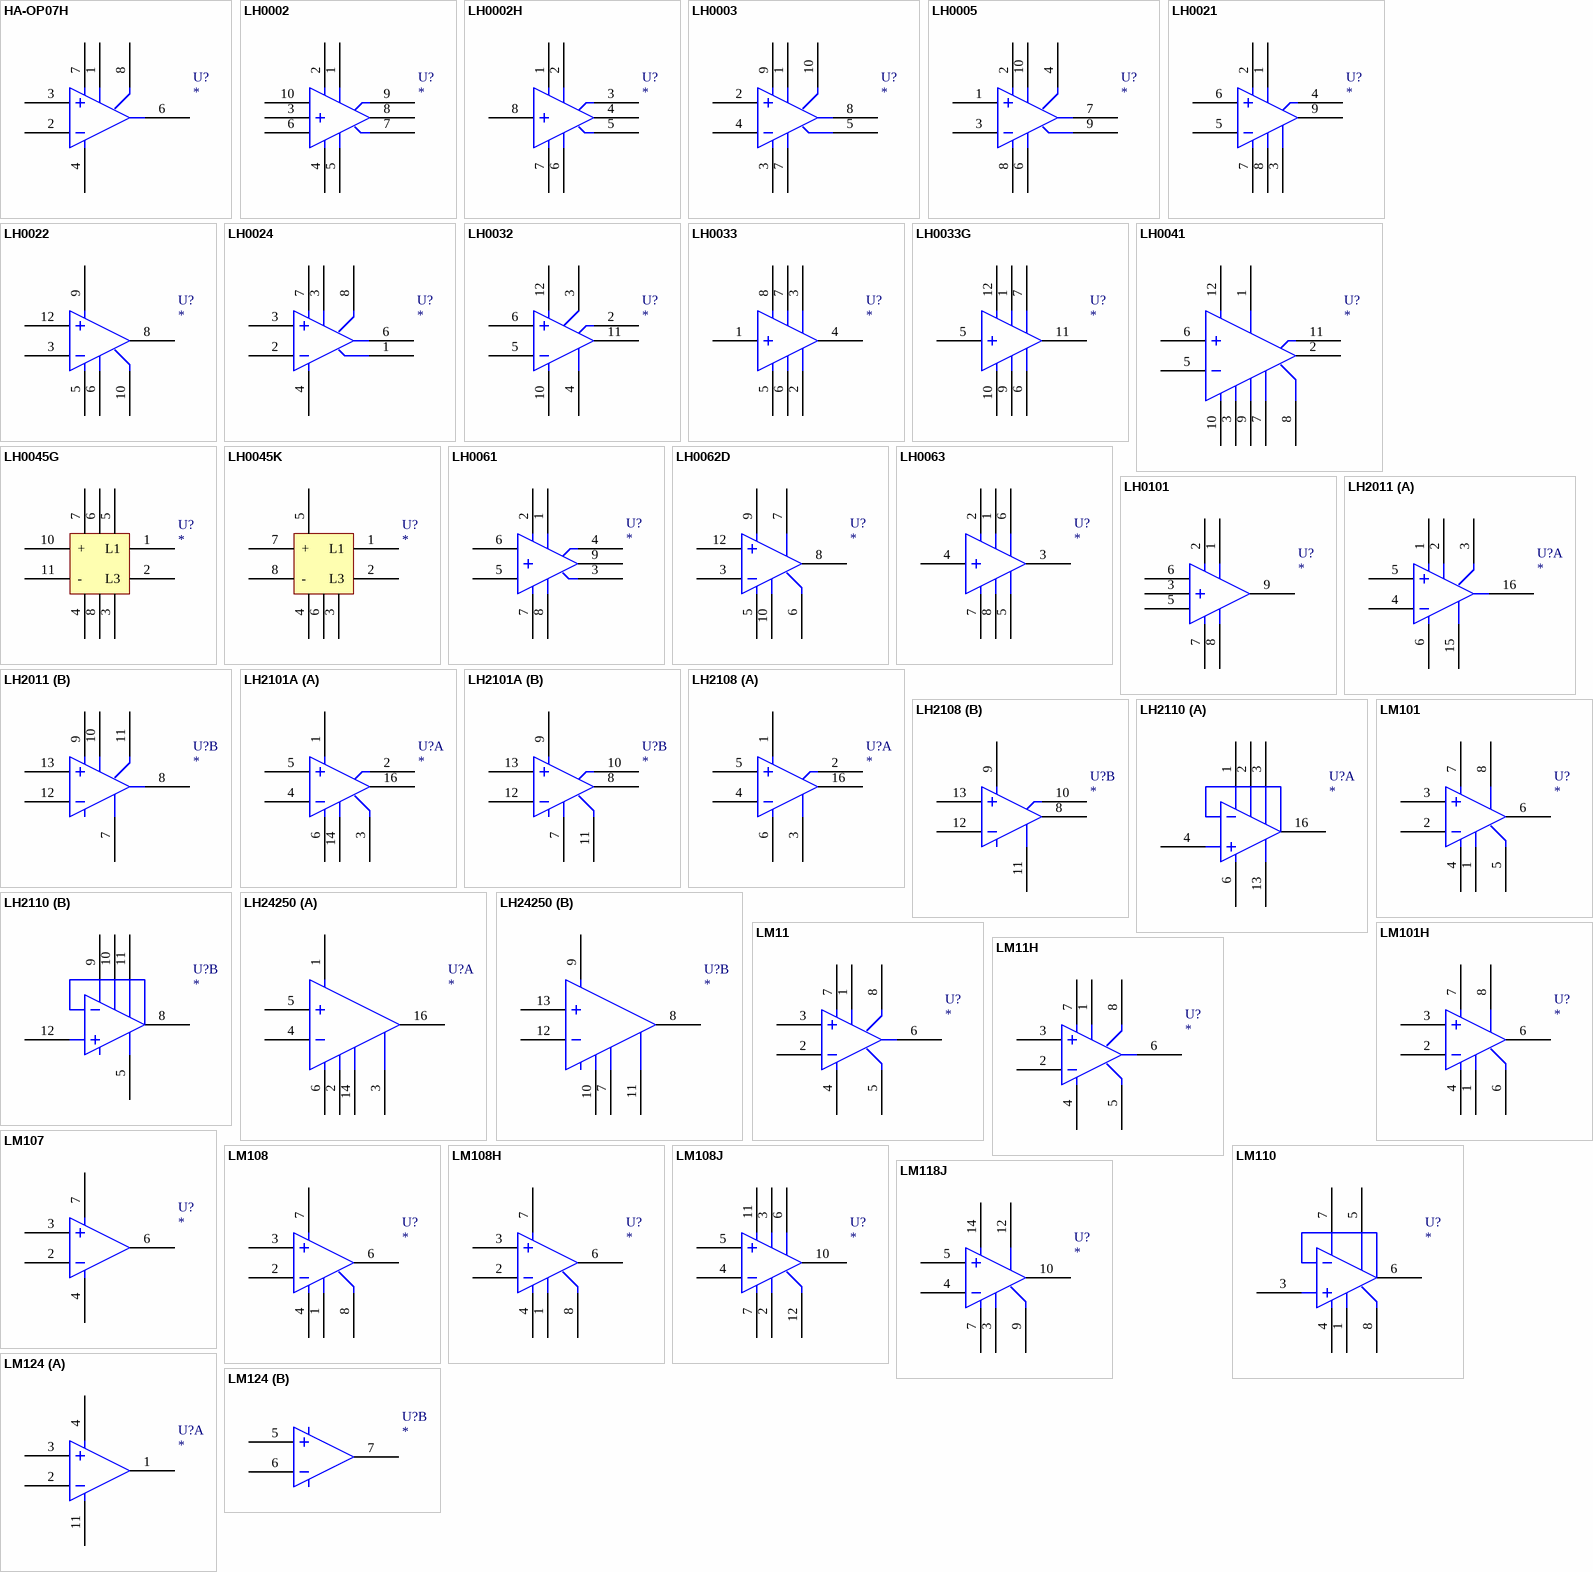
[diagram p4: symbols HA-OP07H to LM124]

## HA-OP07H
designator U?
footprint METAL8
pins: 1, 2, 3, 4, 6, 7, 8

## LH0002
designator U?
footprint DIP-10
pins: 1, 2, 3, 4, 5, 6, 7, 8, 9, 10

## LH0002H
designator U?
footprint METAL8
pins: 1, 2, 3, 4, 5, 6, 7, 8

## LH0003
designator U?
footprint METAL10
pins: 1, 2, 3, 4, 5, 7, 8, 9, 10

## LH0005
designator U?
footprint METAL10
pins: 1, 2, 3, 4, 6, 7, 8, 9, 10

## LH0021
designator U?
footprint TO-3
pins: 1, 2, 3, 4, 5, 6, 7, 8, 9

## LH0022
designator U?
footprint DIP-14
pins: 3, 5, 6, 8, 9, 10, 12

## LH0024
designator U?
footprint METAL8
pins: 1, 2, 3, 3, 4, 6, 7, 8

## LH0032
designator U?
footprint METAL12
pins: 2, 3, 4, 5, 6, 10, 11, 12

## LH0033
designator U?
footprint DIP-8
pins: 1, 2, 3, 4, 5, 6, 7, 8

## LH0033G
designator U?
footprint METAL12
pins: 1, 5, 6, 7, 9, 10, 11, 12

## LH0041
designator U?
footprint METAL12
pins: 1, 2, 3, 5, 6, 7, 8, 9, 10, 11, 12

## LH0045G
designator U?
footprint METAL12
pins: 1 L1, 2 L3, 3, 4, 5, 6, 7, 8, 10 +, 11 -

## LH0045K
designator U?
footprint TO-3
pins: 1 L1, 2 L3, 3, 4, 5, 6, 7 +, 8 -

## LH0061
designator U?
footprint TO-3
pins: 1, 2, 3, 4, 5, 6, 7, 8, 9

## LH0062D
designator U?
footprint DIP-14
pins: 3, 5, 6, 7, 8, 9, 10, 12

## LH0063
designator U?
footprint TO-3
pins: 1, 2, 3, 4, 5, 6, 7, 8

## LH0101
designator U?
footprint TO-3
pins: 1, 2, 3, 5, 6, 7, 8, 9

## LH2011
designator U?
footprint DIP-16
part A pins: 1, 2, 3, 4, 5, 6, 15, 16
part B pins: 7, 8, 9, 10, 11, 12, 13

## LH2101A
designator U?
footprint DIP-16
part A pins: 1, 2, 3, 4, 5, 6, 14, 16
part B pins: 7, 8, 9, 10, 11, 12, 13

## LH2108
designator U?
footprint DIP-16
part A pins: 1, 2, 3, 4, 5, 6, 16
part B pins: 8, 9, 10, 11, 12, 13

## LH2110
designator U?
footprint DIP-16
part A pins: 1, 2, 3, 4, 6, 13, 16
part B pins: 5, 8, 9, 10, 11, 12

## LH24250
designator U?
footprint DIP-16
part A pins: 1, 2, 3, 4, 5, 6, 14, 16
part B pins: 7, 8, 9, 10, 11, 12, 13

## LM11
designator U?
footprint DIP-8
pins: 1, 2, 3, 4, 5, 6, 7, 8

## LM11H
designator U?
footprint METAL8
pins: 1, 2, 3, 4, 5, 6, 7, 8

## LM101
designator U?
footprint DIP-8
pins: 1, 2, 3, 4, 5, 6, 7, 8

## LM101H
designator U?
footprint METAL8
pins: 1, 2, 3, 4, 6, 6, 7, 8

## LM107
designator U?
footprint DIP-8
pins: 2, 3, 4, 6, 7

## LM108
designator U?
footprint DIP-8
pins: 1, 2, 3, 4, 6, 7, 8

## LM108H
designator U?
footprint METAL8
pins: 1, 2, 3, 4, 6, 7, 8

## LM108J
designator U?
footprint DIP-14
pins: 2, 3, 4, 5, 6, 7, 10, 11, 12

## LM110
designator U?
footprint DIP-8
pins: 1, 3, 4, 5, 6, 7, 8

## LM118J
designator U?
footprint DIP-14
pins: 3, 4, 5, 7, 9, 10, 12, 14

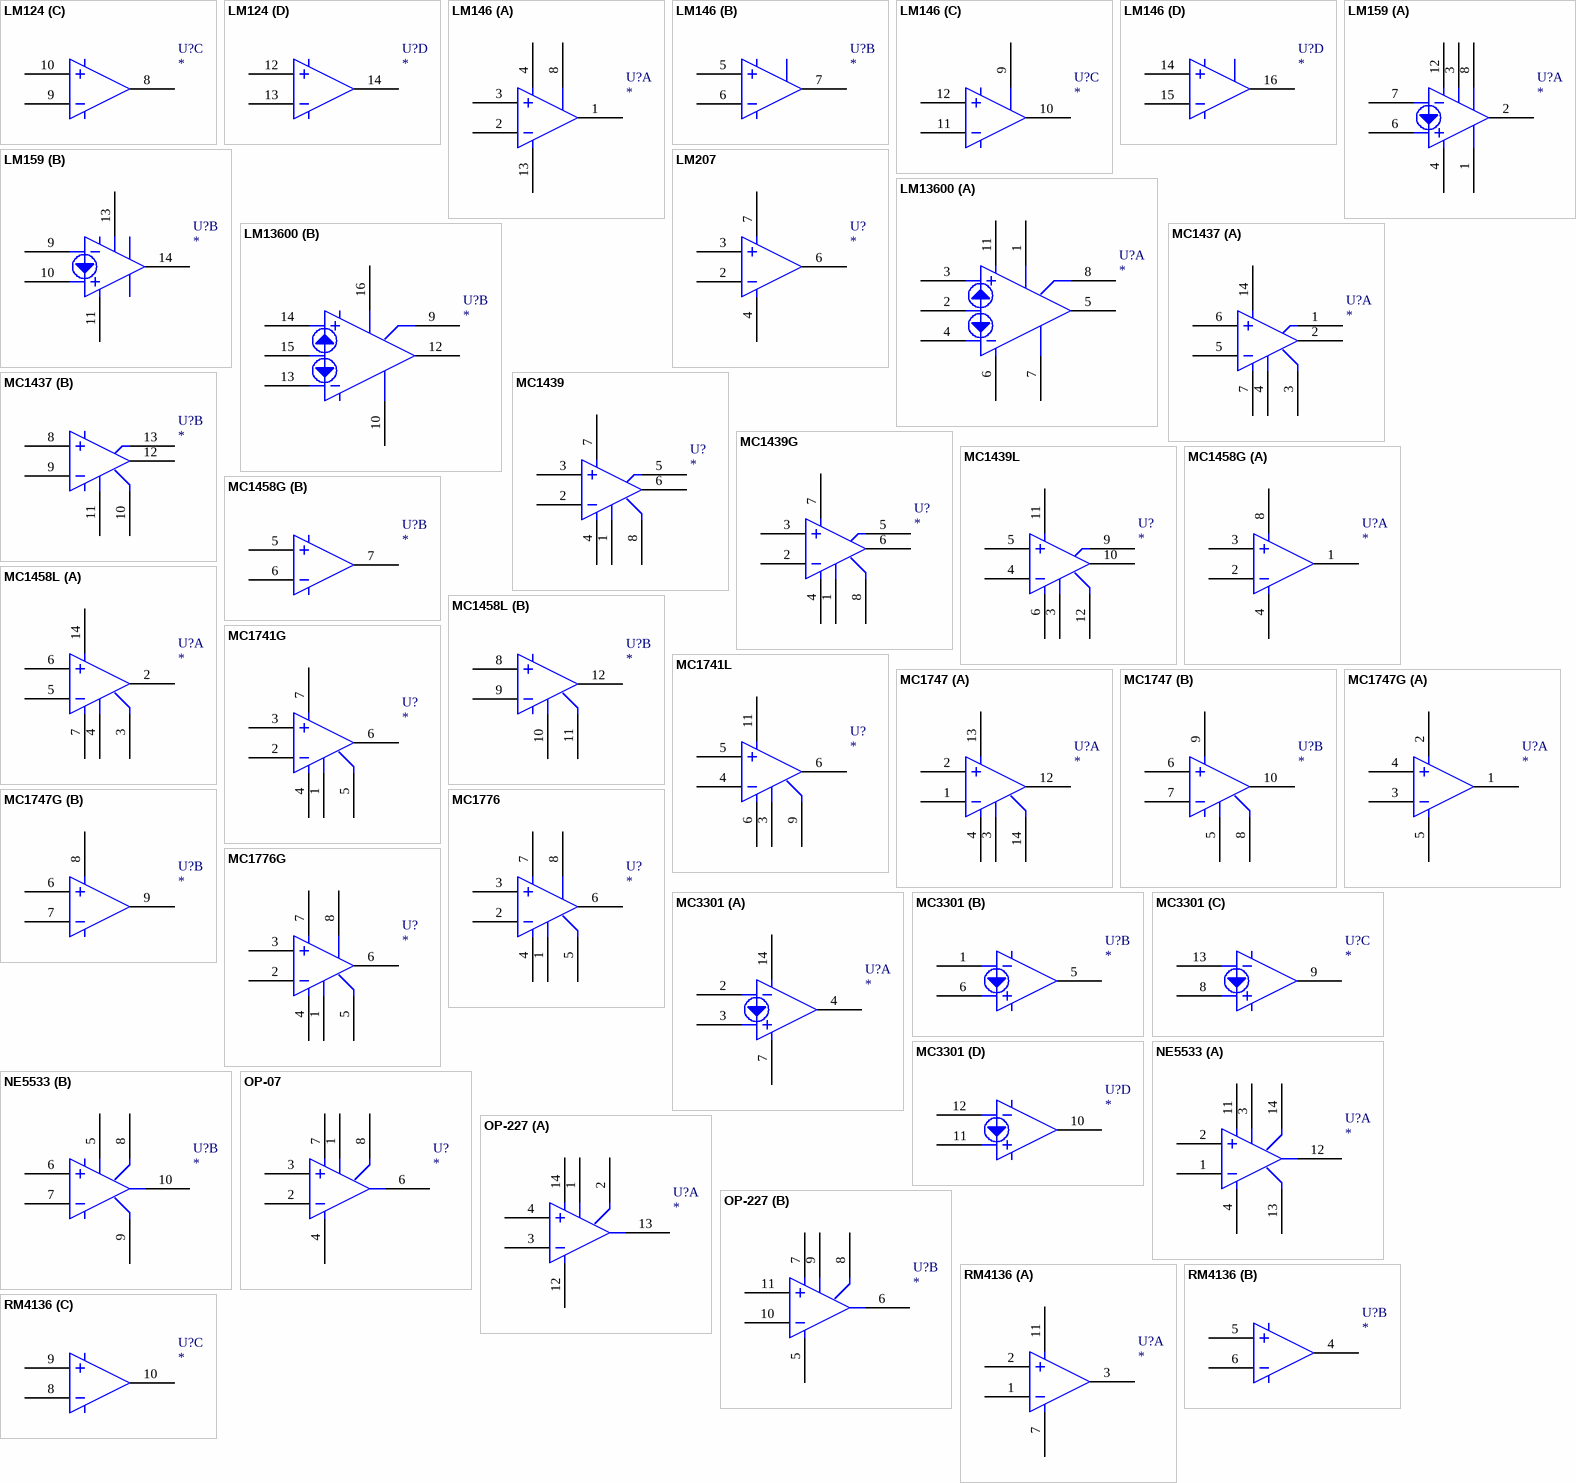
[diagram p5: symbols LM124 to RM4136]

## LM124
designator U?
footprint DIP-14
part A pins: 1, 2, 3, 4, 11
part B pins: 5, 6, 7
part C pins: 8, 9, 10
part D pins: 12, 13, 14

## LM146
designator U?
footprint DIP-16
part A pins: 1, 2, 3, 4, 8, 13
part B pins: 5, 6, 7
part C pins: 9, 10, 11, 12
part D pins: 14, 15, 16

## LM159
designator U?
footprint DIP-14
part A pins: 1, 2, 3, 4, 6, 7, 8, 12
part B pins: 9, 10, 11, 13, 14

## LM207
designator U?
footprint METAL8
pins: 2, 3, 4, 6, 7

## LM13600
designator U?
footprint DIP-16
part A pins: 1, 2, 3, 4, 5, 6, 7, 8, 11
part B pins: 9, 10, 12, 13, 14, 15, 16

## MC1437
designator U?
footprint DIP-14
part A pins: 1, 2, 3, 4, 5, 6, 7, 14
part B pins: 8, 9, 10, 11, 12, 13

## MC1439
designator U?
footprint DIP-8
pins: 1, 2, 3, 4, 5, 6, 7, 8

## MC1439G
designator U?
footprint METAL8
pins: 1, 2, 3, 4, 5, 6, 7, 8

## MC1439L
designator U?
footprint DIP-14
pins: 3, 4, 5, 6, 9, 10, 11, 12

## MC1458G
designator U?
footprint METAL8
part A pins: 1, 2, 3, 4, 8
part B pins: 5, 6, 7

## MC1458L
designator U?
footprint DIP-14
part A pins: 2, 3, 4, 5, 6, 7, 14
part B pins: 8, 9, 10, 11, 12

## MC1741G
designator U?
footprint METAL8
pins: 1, 2, 3, 4, 5, 6, 7

## MC1741L
designator U?
footprint DIP-14
pins: 3, 4, 5, 6, 6, 9, 11

## MC1747
designator U?
footprint DIP-14
part A pins: 1, 2, 3, 4, 12, 13, 14
part B pins: 5, 6, 7, 8, 9, 10

## MC1747G
designator U?
footprint METAL10
part A pins: 1, 2, 3, 4, 5
part B pins: 6, 7, 8, 9

## MC1776
designator U?
footprint DIP-8
pins: 1, 2, 3, 4, 5, 6, 7, 8

## MC1776G
designator U?
footprint METAL8
pins: 1, 2, 3, 4, 5, 6, 7, 8

## MC3301
designator U?
footprint DIP-14
part A pins: 2, 3, 4, 7, 14
part B pins: 1, 5, 6
part C pins: 8, 9, 13
part D pins: 10, 11, 12

## NE5533
designator U?
footprint DIP-14
part A pins: 1, 2, 3, 4, 11, 12, 13, 14
part B pins: 5, 6, 7, 8, 9, 10

## OP-07
designator U?
footprint DIP-8
pins: 1, 2, 3, 4, 6, 7, 8

## OP-227
designator U?
footprint DIP-14
part A pins: 1, 2, 3, 4, 12, 13, 14
part B pins: 5, 6, 7, 8, 9, 10, 11

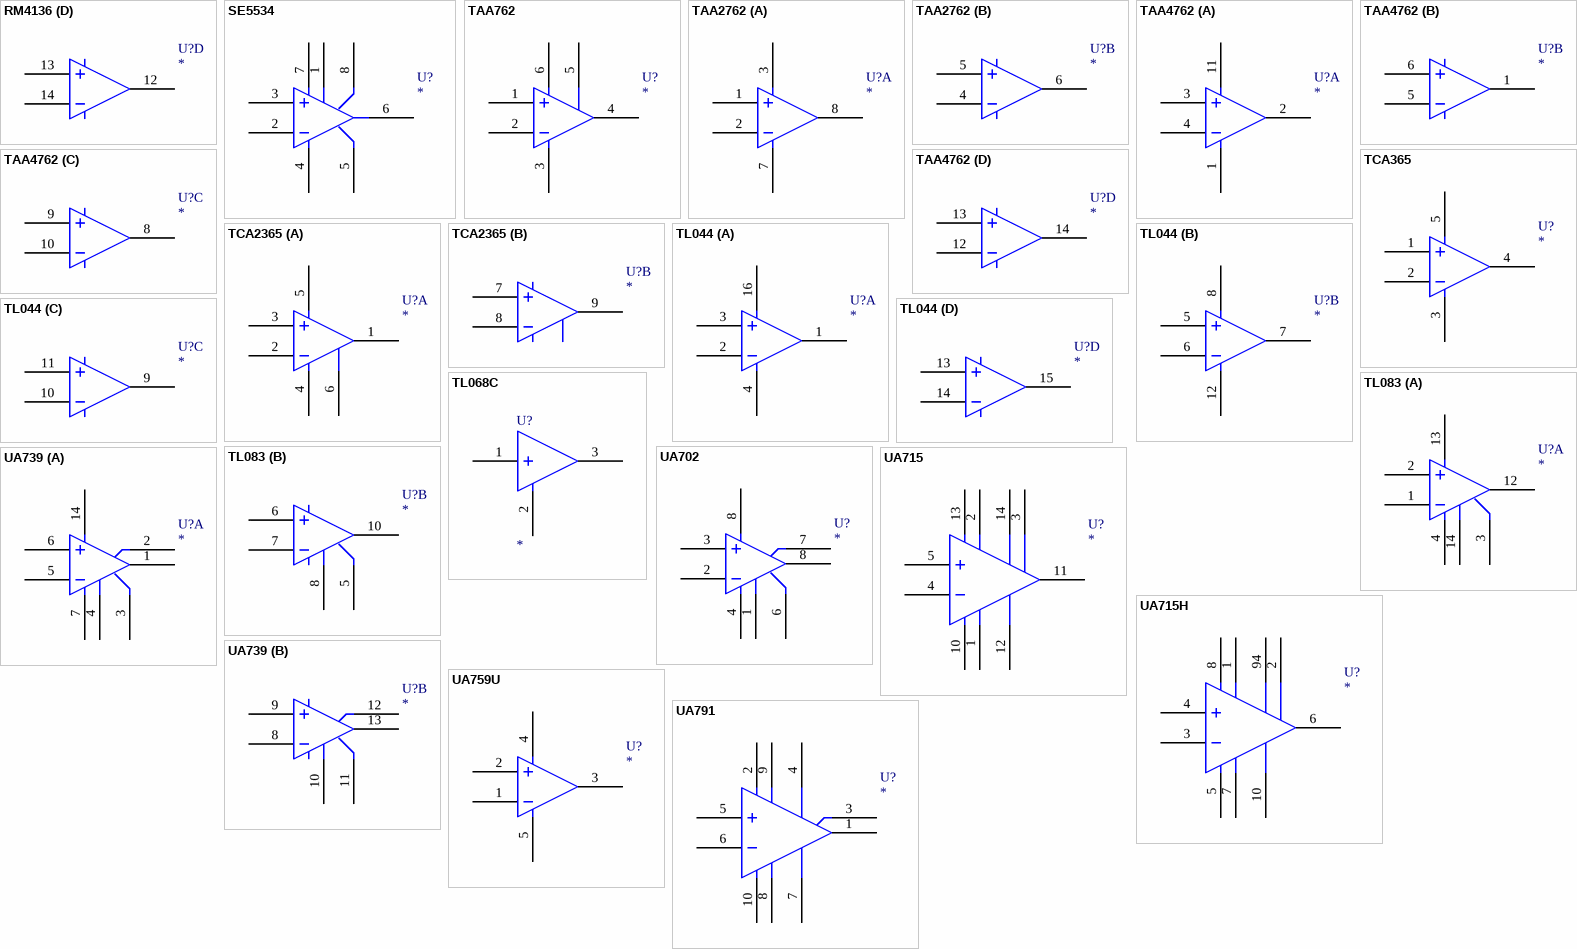
[diagram p6: symbols RM4136 to UA791]

## RM4136
designator U?
footprint DIP-14
part A pins: 1, 2, 3, 7, 11
part B pins: 4, 5, 6
part C pins: 8, 9, 10
part D pins: 12, 13, 14

## SE5534
designator U?
footprint DIP-8
pins: 1, 2, 3, 4, 5, 6, 7, 8

## TAA762
designator U?
footprint DIP-6
pins: 1, 2, 3, 4, 5, 6

## TAA2762
designator U?
footprint DIP-8
part A pins: 1, 2, 3, 7, 8
part B pins: 4, 5, 6

## TAA4762
designator U?
footprint DIP-14
part A pins: 1, 2, 3, 4, 11
part B pins: 1, 5, 6
part C pins: 8, 9, 10
part D pins: 12, 13, 14

## TCA365
designator U?
footprint TO-220-5S
pins: 1, 2, 3, 4, 5

## TCA2365
designator U?
footprint SIP9
part A pins: 1, 2, 3, 4, 5, 6
part B pins: 7, 8, 9

## TL044
designator U?
footprint DIP-16
part A pins: 1, 2, 3, 4, 16
part B pins: 5, 6, 7, 8, 12
part C pins: 9, 10, 11
part D pins: 13, 14, 15

## TL068C
designator U?
footprint TO-92A
pins: 1, 2, 3

## TL083
designator U?
footprint DIP-14
part A pins: 1, 2, 3, 4, 12, 13, 14
part B pins: 5, 6, 7, 8, 10

## UA702
designator U?
footprint DIP-8
pins: 1, 2, 3, 4, 6, 7, 8, 8

## UA715
designator U?
footprint DIP-14
pins: 1, 2, 3, 4, 5, 10, 11, 12, 13, 14

## UA715H
designator U?
footprint METAL10
pins: 1, 2, 3, 4, 5, 6, 7, 8, 10, 94

## UA739
designator U?
footprint DIP-14
part A pins: 1, 2, 3, 4, 5, 6, 7, 14
part B pins: 8, 9, 10, 11, 12, 13

## UA759U
designator U?
footprint MOLDED4
pins: 1, 2, 3, 4, 5

## UA791
designator U?
footprint METAL10
pins: 1, 2, 3, 4, 5, 6, 7, 8, 9, 10


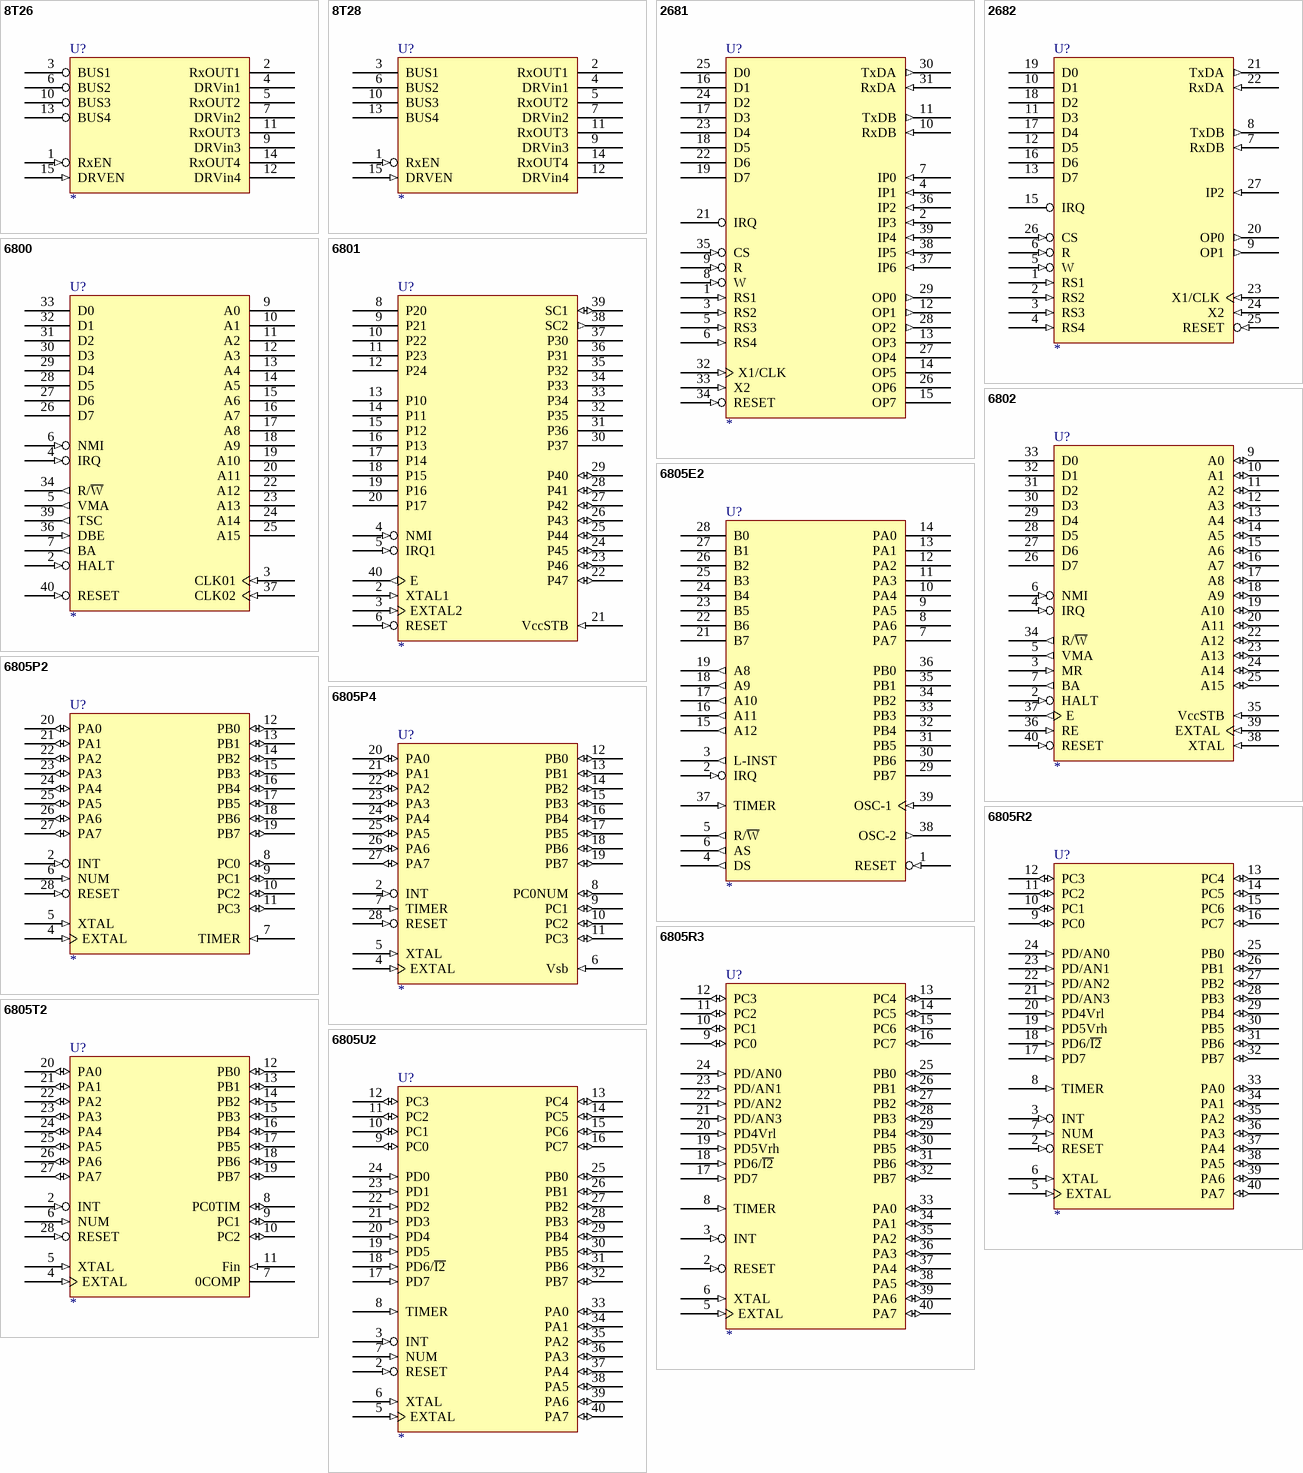
[diagram p7: symbols 8T26 to 6805U2]

## 8T26
designator U?
footprint DIP-16
pins: 1 RxEN (in), 2 RxOUT1 (hiz), 3 BUS1 (hiz), 4 DRVin1 (hiz), 5 RxOUT2 (hiz), 6 BUS2 (hiz), 7 DRVin2 (hiz), 8 GND (power) hidden to GND, 9 DRVin3 (hiz), 10 BUS3 (hiz), 11 RxOUT3 (hiz), 12 DRVin4 (hiz), 13 BUS4 (hiz), 14 RxOUT4 (hiz), 15 DRVEN (in), 16 VCC (power) hidden to VCC

## 8T28
designator U?
footprint DIP-16
pins: 1 RxEN (in), 2 RxOUT1 (hiz), 3 BUS1 (hiz), 4 DRVin1 (hiz), 5 RxOUT2 (hiz), 6 BUS2 (hiz), 7 DRVin2 (hiz), 8 GND (power) hidden to GND, 9 DRVin3 (hiz), 10 BUS3 (hiz), 11 RxOUT3 (hiz), 12 DRVin4 (hiz), 13 BUS4 (hiz), 14 RxOUT4 (hiz), 15 DRVEN (in), 16 VCC (power) hidden to VCC

## 2681
designator U?
footprint DIP-40
pins: 1 RS1 (in), 2 IP3 (in), 3 RS2 (in), 4 IP1 (in), 5 RS3 (in), 6 RS4 (in), 7 IP0 (in), 8 W (in), 9 R (in), 10 RxDB (in), 11 TxDB (out), 12 OP1 (out), 13 OP3 (oc), 14 OP5 (oc), 15 OP7 (oc), 16 D1 (hiz), 17 D3 (hiz), 18 D5 (hiz), 19 D7 (hiz), 20 GND (power) hidden to GND, 21 IRQ (oc), 22 D6 (hiz), 23 D4 (hiz), 24 D2 (hiz), 25 D0 (hiz), 26 OP6 (oc), 27 OP4 (oc), 28 OP2 (out), 29 OP0 (out), 30 TxDA (out), 31 RxDA (in), 32 X1/CLK (in), 33 X2 (in), 34 RESET (in), 35 CS (in), 36 IP2 (in), 37 IP6 (in), 38 IP5 (in), 39 IP4 (in), 40 VCC (power) hidden to VCC

## 2682
designator U?
footprint DIP-28
pins: 1 RS1 (in), 2 RS2 (in), 3 RS3 (in), 4 RS4 (in), 5 W (in), 6 R (in), 7 RxDB (in), 8 TxDB (out), 9 OP1 (out), 10 D1 (hiz), 11 D3 (hiz), 12 D5 (hiz), 13 D7 (hiz), 14 GND (power) hidden to GND, 15 IRQ (oc), 16 D6 (hiz), 17 D4 (hiz), 18 D2 (hiz), 19 D0 (hiz), 20 OP0 (out), 21 TxDA (out), 22 RxDA (in), 23 X1/CLK (in), 24 X2 (in), 25 RESET (in), 26 CS (in), 27 IP2 (in), 28 VCC (power) hidden to VCC

## 6800
designator U?
footprint DIP-40
pins: 1 GND (power) hidden to GND, 2 HALT (in), 3 CLK01 (in), 4 IRQ (in), 5 VMA (out), 6 NMI (in), 7 BA (out), 8 VCC (power) hidden to VCC, 9 A0 (hiz), 10 A1 (hiz), 11 A2 (hiz), 12 A3 (hiz), 13 A4 (hiz), 14 A5 (hiz), 15 A6 (hiz), 16 A7 (hiz), 17 A8 (hiz), 18 A9 (hiz), 19 A10 (hiz), 20 A11 (hiz), 21 GND (power) hidden to GND, 22 A12 (hiz), 23 A13 (hiz), 24 A14 (hiz), 25 A15 (hiz), 26 D7 (hiz), 27 D6 (hiz), 28 D5 (hiz), 29 D4 (hiz), 30 D3 (hiz), 31 D2 (hiz), 32 D1 (hiz), 33 D0 (hiz), 34 R/~{W} (out), 36 DBE (in), 37 CLK02 (in), 39 TSC (out), 40 RESET (in)

## 6801
designator U?
footprint DIP-40
pins: 1 GND (power) hidden to GND, 2 XTAL1 (in), 3 EXTAL2 (in), 4 NMI (in), 5 IRQ1 (in), 6 RESET (in), 7 VCC (power) hidden to VCC, 8 P20 (hiz), 9 P21 (hiz), 10 P22 (hiz), 11 P23 (hiz), 12 P24 (hiz), 13 P10 (hiz), 14 P11 (hiz), 15 P12 (hiz), 16 P13 (hiz), 17 P14 (hiz), 18 P15 (hiz), 19 P16 (hiz), 20 P17 (hiz), 21 VccSTB (in), 22 P47 (io), 23 P46 (io), 24 P45 (io), 25 P44 (io), 26 P43 (io), 27 P42 (io), 28 P41 (io), 29 P40 (io), 30 P37 (hiz), 31 P36 (hiz), 32 P35 (hiz), 33 P34 (hiz), 34 P33 (hiz), 35 P32 (hiz), 36 P31 (hiz), 37 P30 (hiz), 38 SC2 (out), 39 SC1 (io), 40 E (out)

## 6802
designator U?
footprint DIP-40
pins: 1 GND (power) hidden to GND, 2 HALT (in), 3 MR (in), 4 IRQ (in), 5 VMA (out), 6 NMI (in), 7 BA (out), 8 VCC (power) hidden to VCC, 9 A0 (io), 10 A1 (io), 11 A2 (io), 12 A3 (io), 13 A4 (io), 14 A5 (io), 15 A6 (io), 16 A7 (io), 17 A8 (io), 18 A9 (io), 19 A10 (io), 20 A11 (io), 21 GND (power) hidden to GND, 22 A12 (io), 23 A13 (io), 24 A14 (io), 25 A15 (io), 26 D7 (hiz), 27 D6 (hiz), 28 D5 (hiz), 29 D4 (hiz), 30 D3 (hiz), 31 D2 (hiz), 32 D1 (hiz), 33 D0 (hiz), 34 R/~{W} (out), 35 VccSTB (in), 36 RE (in), 37 E (out), 38 XTAL (in), 39 EXTAL (in), 40 RESET (in)

## 6805E2
designator U?
footprint DIP-40
pins: 1 RESET (in), 2 IRQ (in), 3 L-INST (out), 4 DS (out), 5 R/~{W} (out), 6 AS (out), 7 PA7 (hiz), 8 PA6 (hiz), 9 PA5 (hiz), 10 PA4 (hiz), 11 PA3 (hiz), 12 PA2 (hiz), 13 PA1 (hiz), 14 PA0 (hiz), 15 A12 (out), 16 A11 (out), 17 A10 (out), 18 A9 (out), 19 A8 (out), 20 GND (power) hidden to GND, 21 B7 (hiz), 22 B6 (hiz), 23 B5 (hiz), 24 B4 (hiz), 25 B3 (hiz), 26 B2 (hiz), 27 B1 (hiz), 28 B0 (hiz), 29 PB7 (hiz), 30 PB6 (hiz), 31 PB5 (hiz), 32 PB4 (hiz), 33 PB3 (hiz), 34 PB2 (hiz), 35 PB1 (hiz), 36 PB0 (hiz), 37 TIMER (in), 38 OSC-2 (out), 39 OSC-1 (in), 40 VCC (power) hidden to VCC

## 6805P2
designator U?
footprint DIP-28
pins: 1 GND (power) hidden to GND, 2 INT (in), 3 VCC (power) hidden to VCC, 4 EXTAL (in), 5 XTAL (in), 6 NUM (in), 7 TIMER (in), 8 PC0 (io), 9 PC1 (io), 10 PC2 (io), 11 PC3 (io), 12 PB0 (io), 13 PB1 (io), 14 PB2 (io), 15 PB3 (io), 16 PB4 (io), 17 PB5 (io), 18 PB6 (io), 19 PB7 (io), 20 PA0 (io), 21 PA1 (io), 22 PA2 (io), 23 PA3 (io), 24 PA4 (io), 25 PA5 (io), 26 PA6 (io), 27 PA7 (io), 28 RESET (in)

## 6805P4
designator U?
footprint DIP-28
pins: 1 GND (power) hidden to GND, 2 INT (in), 3 VCC (power) hidden to VCC, 4 EXTAL (in), 5 XTAL (in), 6 Vsb (in), 7 TIMER (in), 8 PC0NUM (io), 9 PC1 (io), 10 PC2 (io), 11 PC3 (io), 12 PB0 (io), 13 PB1 (io), 14 PB2 (io), 15 PB3 (io), 16 PB4 (io), 17 PB5 (io), 18 PB6 (io), 19 PB7 (io), 20 PA0 (io), 21 PA1 (io), 22 PA2 (io), 23 PA3 (io), 24 PA4 (io), 25 PA5 (io), 26 PA6 (io), 27 PA7 (io), 28 RESET (in)

## 6805R2
designator U?
footprint DIP-40
pins: 1 GND (power) hidden to GND, 2 RESET (in), 3 INT (in), 4 VCC (power) hidden to VCC, 5 EXTAL (in), 6 XTAL (in), 7 NUM (in), 8 TIMER (in), 9 PC0 (io), 10 PC1 (io), 11 PC2 (io), 12 PC3 (io), 13 PC4 (io), 14 PC5 (io), 15 PC6 (io), 16 PC7 (io), 17 PD7 (in), 18 PD6/~{I2} (in), 19 PD5Vrh (in), 20 PD4Vrl (in), 21 PD/AN3 (in), 22 PD/AN2 (in), 23 PD/AN1 (in), 24 PD/AN0 (in), 25 PB0 (io), 26 PB1 (io), 27 PB2 (io), 28 PB3 (io), 29 PB4 (io), 30 PB5 (io), 31 PB6 (io), 32 PB7 (io), 33 PA0 (io), 34 PA1 (io), 35 PA2 (io), 36 PA3 (io), 37 PA4 (io), 38 PA5 (io), 39 PA6 (io), 40 PA7 (io)

## 6805R3
designator U?
footprint DIP-40
pins: 1 GND (power) hidden to GND, 2 RESET (in), 3 INT (in), 4 VCC (power) hidden to VCC, 5 EXTAL (in), 6 XTAL (in), 8 TIMER (in), 9 PC0 (io), 10 PC1 (io), 11 PC2 (io), 12 PC3 (io), 13 PC4 (io), 14 PC5 (io), 15 PC6 (io), 16 PC7 (io), 17 PD7 (in), 18 PD6/~{I2} (in), 19 PD5Vrh (in), 20 PD4Vrl (in), 21 PD/AN3 (in), 22 PD/AN2 (in), 23 PD/AN1 (in), 24 PD/AN0 (in), 25 PB0 (io), 26 PB1 (io), 27 PB2 (io), 28 PB3 (io), 29 PB4 (io), 30 PB5 (io), 31 PB6 (io), 32 PB7 (io), 33 PA0 (io), 34 PA1 (io), 35 PA2 (io), 36 PA3 (io), 37 PA4 (io), 38 PA5 (io), 39 PA6 (io), 40 PA7 (io)

## 6805T2
designator U?
footprint DIP-28
pins: 1 GND (power) hidden to GND, 2 INT (in), 3 VCC (power) hidden to VCC, 4 EXTAL (in), 5 XTAL (in), 6 NUM (in), 7 0COMP (hiz), 8 PC0TIM (io), 9 PC1 (io), 10 PC2 (io), 11 Fin (in), 12 PB0 (io), 13 PB1 (io), 14 PB2 (io), 15 PB3 (io), 16 PB4 (io), 17 PB5 (io), 18 PB6 (io), 19 PB7 (io), 20 PA0 (io), 21 PA1 (io), 22 PA2 (io), 23 PA3 (io), 24 PA4 (io), 25 PA5 (io), 26 PA6 (io), 27 PA7 (io), 28 RESET (in)

## 6805U2
designator U?
footprint DIP-40
pins: 1 GND (power) hidden to GND, 2 RESET (in), 3 INT (in), 4 VCC (power) hidden to VCC, 5 EXTAL (in), 6 XTAL (in), 7 NUM (in), 8 TIMER (in), 9 PC0 (io), 10 PC1 (io), 11 PC2 (io), 12 PC3 (io), 13 PC4 (io), 14 PC5 (io), 15 PC6 (io), 16 PC7 (io), 17 PD7 (in), 18 PD6/~{I2} (in), 19 PD5 (in), 20 PD4 (in), 21 PD3 (in), 22 PD2 (in), 23 PD1 (in), 24 PD0 (in), 25 PB0 (io), 26 PB1 (io), 27 PB2 (io), 28 PB3 (io), 29 PB4 (io), 30 PB5 (io), 31 PB6 (io), 32 PB7 (io), 33 PA0 (io), 34 PA1 (io), 35 PA2 (io), 36 PA3 (io), 37 PA4 (io), 38 PA5 (io), 39 PA6 (io), 40 PA7 (io)

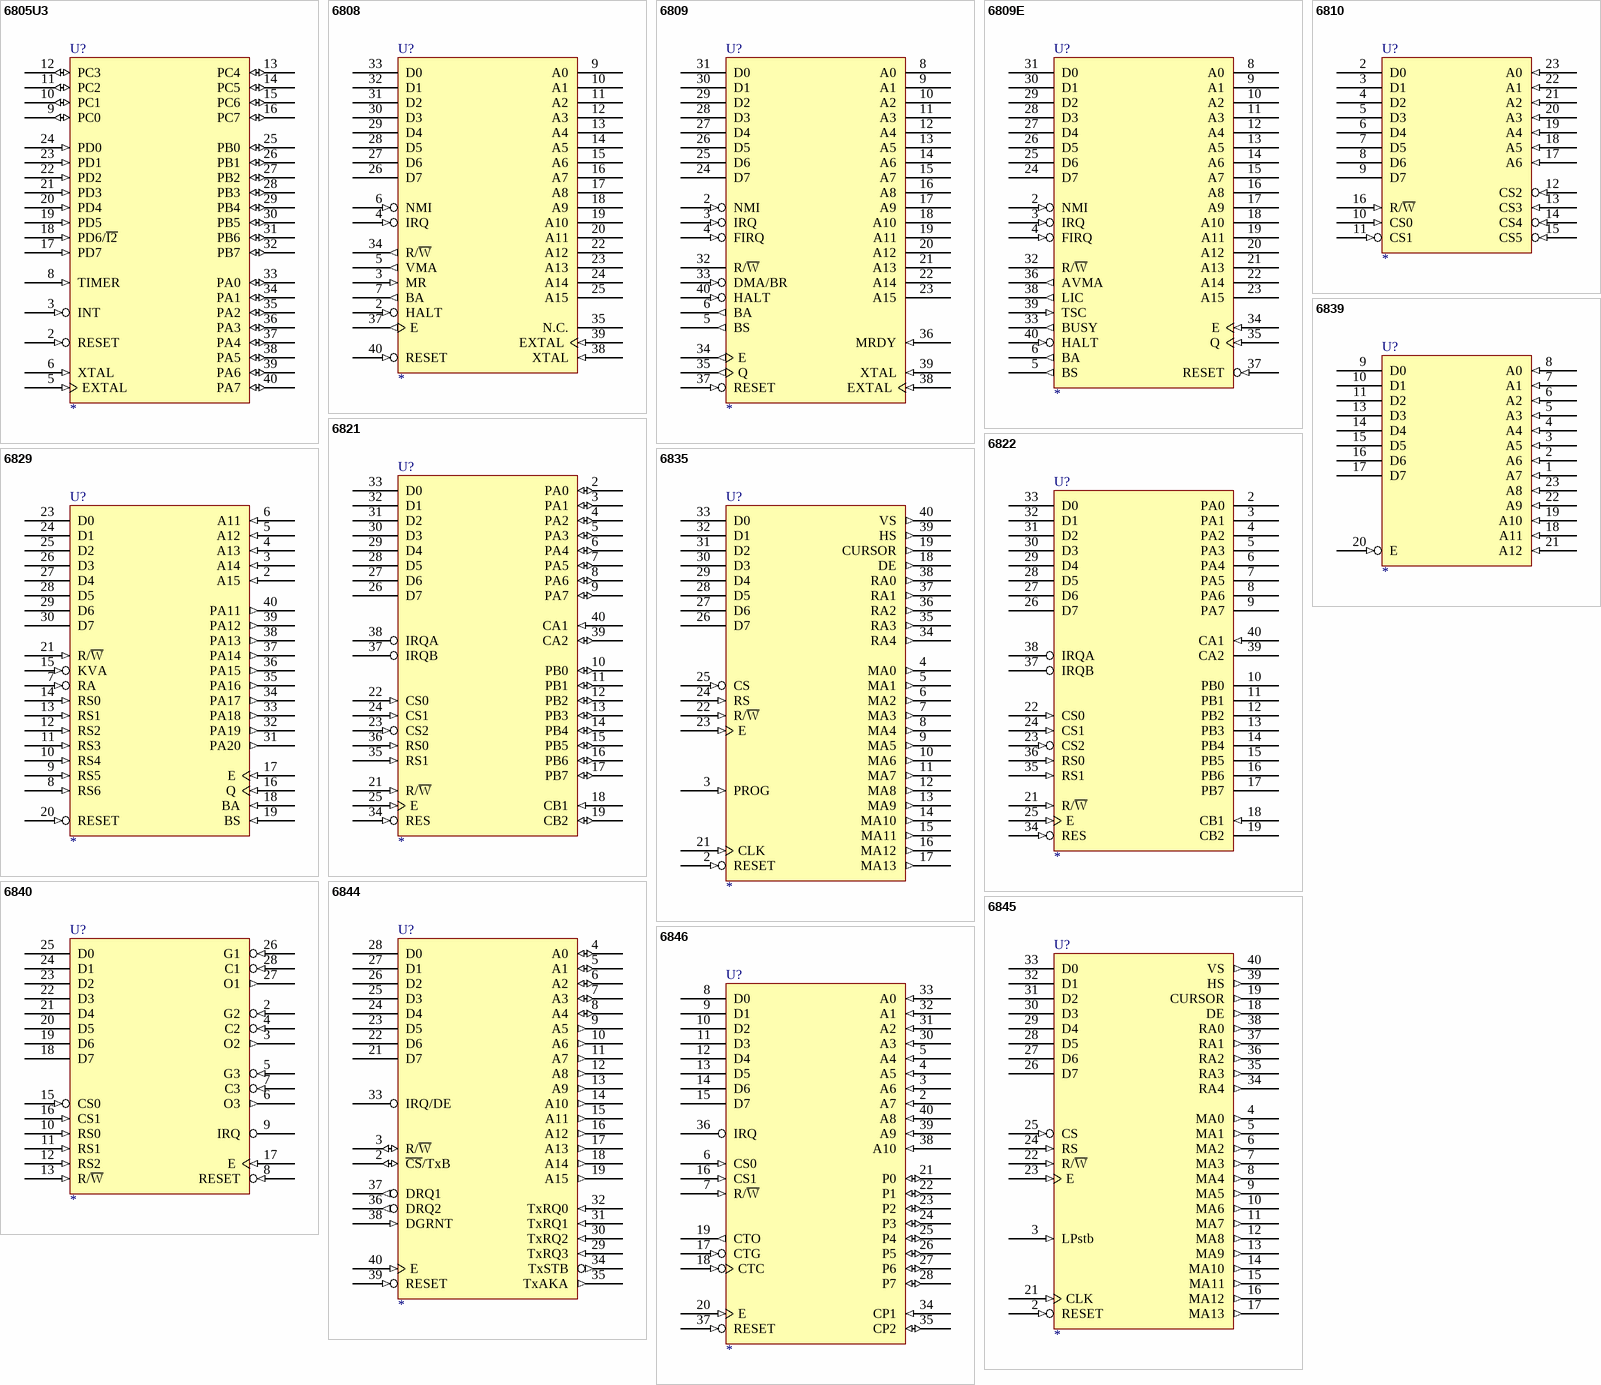
[diagram p8: symbols 6805U3 to 6846]

## 6805U3
designator U?
footprint DIP-40
pins: 1 GND (power) hidden to GND, 2 RESET (in), 3 INT (in), 4 VCC (power) hidden to VCC, 5 EXTAL (in), 6 XTAL (in), 8 TIMER (in), 9 PC0 (io), 10 PC1 (io), 11 PC2 (io), 12 PC3 (io), 13 PC4 (io), 14 PC5 (io), 15 PC6 (io), 16 PC7 (io), 17 PD7 (in), 18 PD6/~{I2} (in), 19 PD5 (in), 20 PD4 (in), 21 PD3 (in), 22 PD2 (in), 23 PD1 (in), 24 PD0 (in), 25 PB0 (io), 26 PB1 (io), 27 PB2 (io), 28 PB3 (io), 29 PB4 (io), 30 PB5 (io), 31 PB6 (io), 32 PB7 (io), 33 PA0 (io), 34 PA1 (io), 35 PA2 (io), 36 PA3 (io), 37 PA4 (io), 38 PA5 (io), 39 PA6 (io), 40 PA7 (io)

## 6808
designator U?
footprint DIP-40
pins: 1 GND (power) hidden to GND, 2 HALT (in), 3 MR (in), 4 IRQ (in), 5 VMA (out), 6 NMI (in), 7 BA (out), 8 VCC (power) hidden to VCC, 9 A0 (hiz), 10 A1 (hiz), 11 A2 (hiz), 12 A3 (hiz), 13 A4 (hiz), 14 A5 (hiz), 15 A6 (hiz), 16 A7 (hiz), 17 A8 (hiz), 18 A9 (hiz), 19 A10 (hiz), 20 A11 (hiz), 21 GND (power) hidden to GND, 22 A12 (hiz), 23 A13 (hiz), 24 A14 (hiz), 25 A15 (hiz), 26 D7 (hiz), 27 D6 (hiz), 28 D5 (hiz), 29 D4 (hiz), 30 D3 (hiz), 31 D2 (hiz), 32 D1 (hiz), 33 D0 (hiz), 34 R/~{W} (out), 35 N.C., 36 GND (power) hidden to GND, 37 E (out), 38 XTAL (in), 39 EXTAL (in), 40 RESET (in)

## 6809
designator U?
footprint DIP-40
pins: 1 GND (power) hidden to GND, 2 NMI (in), 3 IRQ (in), 4 FIRQ (in), 5 BS (out), 6 BA (out), 7 VCC (power) hidden to VCC, 8 A0 (hiz), 9 A1 (hiz), 10 A2 (hiz), 11 A3 (hiz), 12 A4 (hiz), 13 A5 (hiz), 14 A6 (hiz), 15 A7 (hiz), 16 A8 (hiz), 17 A9 (hiz), 18 A10 (hiz), 19 A11 (hiz), 20 A12 (hiz), 21 A13 (hiz), 22 A14 (hiz), 23 A15 (hiz), 24 D7 (hiz), 25 D6 (hiz), 26 D5 (hiz), 27 D4 (hiz), 28 D3 (hiz), 29 D2 (hiz), 30 D1 (hiz), 31 D0 (hiz), 32 R/~{W} (hiz), 33 DMA/BR (in), 34 E (out), 35 Q (out), 36 MRDY (in), 37 RESET (in), 38 EXTAL (in), 39 XTAL (in), 40 HALT (in)

## 6809E
designator U?
footprint DIP-40
pins: 1 GND (power) hidden to GND, 2 NMI (in), 3 IRQ (in), 4 FIRQ (in), 5 BS (out), 6 BA (out), 7 VCC (power) hidden to VCC, 8 A0 (hiz), 9 A1 (hiz), 10 A2 (hiz), 11 A3 (hiz), 12 A4 (hiz), 13 A5 (hiz), 14 A6 (hiz), 15 A7 (hiz), 16 A8 (hiz), 17 A9 (hiz), 18 A10 (hiz), 19 A11 (hiz), 20 A12 (hiz), 21 A13 (hiz), 22 A14 (hiz), 23 A15 (hiz), 24 D7 (hiz), 25 D6 (hiz), 26 D5 (hiz), 27 D4 (hiz), 28 D3 (hiz), 29 D2 (hiz), 30 D1 (hiz), 31 D0 (hiz), 32 R/~{W} (hiz), 33 BUSY (out), 34 E (in), 35 Q (in), 36 AVMA (out), 37 RESET (in), 38 LIC (out), 39 TSC (in), 40 HALT (in)

## 6810
designator U?
footprint DIP-24
pins: 1 GND (power) hidden to GND, 2 D0 (hiz), 3 D1 (hiz), 4 D2 (hiz), 5 D3 (hiz), 6 D4 (hiz), 7 D5 (hiz), 8 D6 (hiz), 9 D7 (hiz), 10 CS0 (in), 11 CS1 (in), 12 CS2 (in), 13 CS3 (in), 14 CS4 (in), 15 CS5 (in), 16 R/~{W} (in), 17 A6 (in), 18 A5 (in), 19 A4 (in), 20 A3 (in), 21 A2 (in), 22 A1 (in), 23 A0 (in), 24 VCC (power) hidden to VCC

## 6821
designator U?
footprint DIP-40
pins: 1 GND (power) hidden to GND, 2 PA0 (io), 3 PA1 (io), 4 PA2 (io), 5 PA3 (io), 6 PA4 (io), 7 PA5 (io), 8 PA6 (io), 9 PA7 (io), 10 PB0 (io), 11 PB1 (io), 12 PB2 (io), 13 PB3 (io), 14 PB4 (io), 15 PB5 (io), 16 PB6 (io), 17 PB7 (io), 18 CB1 (in), 19 CB2 (io), 20 VCC (power) hidden to VCC, 21 R/~{W} (in), 22 CS0 (in), 23 CS2 (in), 24 CS1 (in), 25 E (in), 26 D7 (hiz), 27 D6 (hiz), 28 D5 (hiz), 29 D4 (hiz), 30 D3 (hiz), 31 D2 (hiz), 32 D1 (hiz), 33 D0 (hiz), 34 RES (in), 35 RS1 (in), 36 RS0 (in), 37 IRQB (oc), 38 IRQA (oc), 39 CA2 (io), 40 CA1 (in)

## 6822
designator U?
footprint DIP-40
pins: 1 GND (power) hidden to GND, 2 PA0 (oc), 3 PA1 (oc), 4 PA2 (oc), 5 PA3 (oc), 6 PA4 (oc), 7 PA5 (oc), 8 PA6 (oc), 9 PA7 (oc), 10 PB0 (oc), 11 PB1 (oc), 12 PB2 (oc), 13 PB3 (oc), 14 PB4 (oc), 15 PB5 (oc), 16 PB6 (oc), 17 PB7 (oc), 18 CB1 (in), 19 CB2 (oc), 20 VCC (power) hidden to VCC, 21 R/~{W} (in), 22 CS0 (in), 23 CS2 (in), 24 CS1 (in), 25 E (in), 26 D7 (hiz), 27 D6 (hiz), 28 D5 (hiz), 29 D4 (hiz), 30 D3 (hiz), 31 D2 (hiz), 32 D1 (hiz), 33 D0 (hiz), 34 RES (in), 35 RS1 (in), 36 RS0 (in), 37 IRQB (oc), 38 IRQA (oc), 39 CA2 (oc), 40 CA1 (in)

## 6829
designator U?
footprint DIP-40
pins: 1 GND (power) hidden to GND, 2 A15 (in), 3 A14 (in), 4 A13 (in), 5 A12 (in), 6 A11 (in), 7 RA (in), 8 RS6 (in), 9 RS5 (in), 10 RS4 (in), 11 RS3 (in), 12 RS2 (in), 13 RS1 (in), 14 RS0 (in), 15 KVA (in), 16 Q (in), 17 E (in), 18 BA (in), 19 BS (in), 20 RESET (in), 21 R/~{W} (in), 22 VCC (power) hidden to VCC, 23 D0 (hiz), 24 D1 (hiz), 25 D2 (hiz), 26 D3 (hiz), 27 D4 (hiz), 28 D5 (hiz), 29 D6 (hiz), 30 D7 (hiz), 31 PA20 (out), 32 PA19 (out), 33 PA18 (out), 34 PA17 (out), 35 PA16 (out), 36 PA15 (out), 37 PA14 (out), 38 PA13 (out), 39 PA12 (out), 40 PA11 (out)

## 6835
designator U?
footprint DIP-40
pins: 1 GND (power) hidden to GND, 2 RESET (in), 3 PROG (in), 4 MA0 (out), 5 MA1 (out), 6 MA2 (out), 7 MA3 (out), 8 MA4 (out), 9 MA5 (out), 10 MA6 (out), 11 MA7 (out), 12 MA8 (out), 13 MA9 (out), 14 MA10 (out), 15 MA11 (out), 16 MA12 (out), 17 MA13 (out), 18 DE (out), 19 CURSOR (out), 20 VCC (power) hidden to VCC, 21 CLK (in), 22 R/~{W} (in), 23 E (in), 24 RS (in), 25 CS (in), 26 D7 (hiz), 27 D6 (hiz), 28 D5 (hiz), 29 D4 (hiz), 30 D3 (hiz), 31 D2 (hiz), 32 D1 (hiz), 33 D0 (hiz), 34 RA4 (out), 35 RA3 (out), 36 RA2 (out), 37 RA1 (out), 38 RA0 (out), 39 HS (out), 40 VS (out)

## 6839
designator U?
footprint DIP-24
pins: 1 A7 (in), 2 A6 (in), 3 A5 (in), 4 A4 (in), 5 A3 (in), 6 A2 (in), 7 A1 (in), 8 A0 (in), 9 D0 (hiz), 10 D1 (hiz), 11 D2 (hiz), 12 GND (power) hidden to GND, 13 D3 (hiz), 14 D4 (hiz), 15 D5 (hiz), 16 D6 (hiz), 17 D7 (hiz), 18 A11 (in), 19 A10 (in), 20 E (in), 21 A12 (in), 22 A9 (in), 23 A8 (in), 24 VCC (power) hidden to VCC

## 6840
designator U?
footprint DIP-28
pins: 1 GND (power) hidden to GND, 2 G2 (in), 3 O2 (out), 4 C2 (in), 5 G3 (in), 6 O3 (out), 7 C3 (in), 8 RESET (in), 9 IRQ (oc), 10 RS0 (in), 11 RS1 (in), 12 RS2 (in), 13 R/~{W} (in), 14 VCC (power) hidden to VCC, 15 CS0 (in), 16 CS1 (in), 17 E (in), 18 D7 (hiz), 19 D6 (hiz), 20 D5 (hiz), 21 D4 (hiz), 22 D3 (hiz), 23 D2 (hiz), 24 D1 (hiz), 25 D0 (hiz), 26 G1 (in), 27 O1 (out), 28 C1 (in)

## 6844
designator U?
footprint DIP-40
pins: 1 GND (power) hidden to GND, 2 ~{CS}/TxB (io), 3 R/~{W} (io), 4 A0 (io), 5 A1 (io), 6 A2 (io), 7 A3 (io), 8 A4 (io), 9 A5 (out), 10 A6 (out), 11 A7 (out), 12 A8 (out), 13 A9 (out), 14 A10 (out), 15 A11 (out), 16 A12 (out), 17 A13 (out), 18 A14 (out), 19 A15 (out), 20 VCC (power) hidden to VCC, 21 D7 (hiz), 22 D6 (hiz), 23 D5 (hiz), 24 D4 (hiz), 25 D3 (hiz), 26 D2 (hiz), 27 D1 (hiz), 28 D0 (hiz), 29 TxRQ3 (in), 30 TxRQ2 (in), 31 TxRQ1 (in), 32 TxRQ0 (in), 33 IRQ/DE (oc), 34 TxSTB (out), 35 TxAKA (out), 36 DRQ2 (out), 37 DRQ1 (out), 38 DGRNT (in), 39 RESET (in), 40 E (in)

## 6845
designator U?
footprint DIP-40
pins: 1 GND (power) hidden to GND, 2 RESET (in), 3 LPstb (in), 4 MA0 (out), 5 MA1 (out), 6 MA2 (out), 7 MA3 (out), 8 MA4 (out), 9 MA5 (out), 10 MA6 (out), 11 MA7 (out), 12 MA8 (out), 13 MA9 (out), 14 MA10 (out), 15 MA11 (out), 16 MA12 (out), 17 MA13 (out), 18 DE (out), 19 CURSOR (out), 20 VCC (power) hidden to VCC, 21 CLK (in), 22 R/~{W} (in), 23 E (in), 24 RS (in), 25 CS (in), 26 D7 (hiz), 27 D6 (hiz), 28 D5 (hiz), 29 D4 (hiz), 30 D3 (hiz), 31 D2 (hiz), 32 D1 (hiz), 33 D0 (hiz), 34 RA4 (out), 35 RA3 (out), 36 RA2 (out), 37 RA1 (out), 38 RA0 (out), 39 HS (out), 40 VS (out)

## 6846
designator U?
footprint DIP-40
pins: 1 GND (power) hidden to GND, 2 A7 (in), 3 A6 (in), 4 A5 (in), 5 A4 (in), 6 CS0 (in), 7 R/~{W} (in), 8 D0 (hiz), 9 D1 (hiz), 10 D2 (hiz), 11 D3 (hiz), 12 D4 (hiz), 13 D5 (hiz), 14 D6 (hiz), 15 D7 (hiz), 16 CS1 (in), 17 CTG (in), 18 CTC (in), 19 CTO (out), 20 E (in), 21 P0 (io), 22 P1 (io), 23 P2 (io), 24 P3 (io), 25 P4 (io), 26 P5 (io), 27 P6 (io), 28 P7 (io), 29 VCC (power) hidden to VCC, 30 A3 (in), 31 A2 (in), 32 A1 (in), 33 A0 (in), 34 CP1 (in), 35 CP2 (io), 36 IRQ (oc), 37 RESET (in), 38 A10 (in), 39 A9 (in), 40 A8 (in)

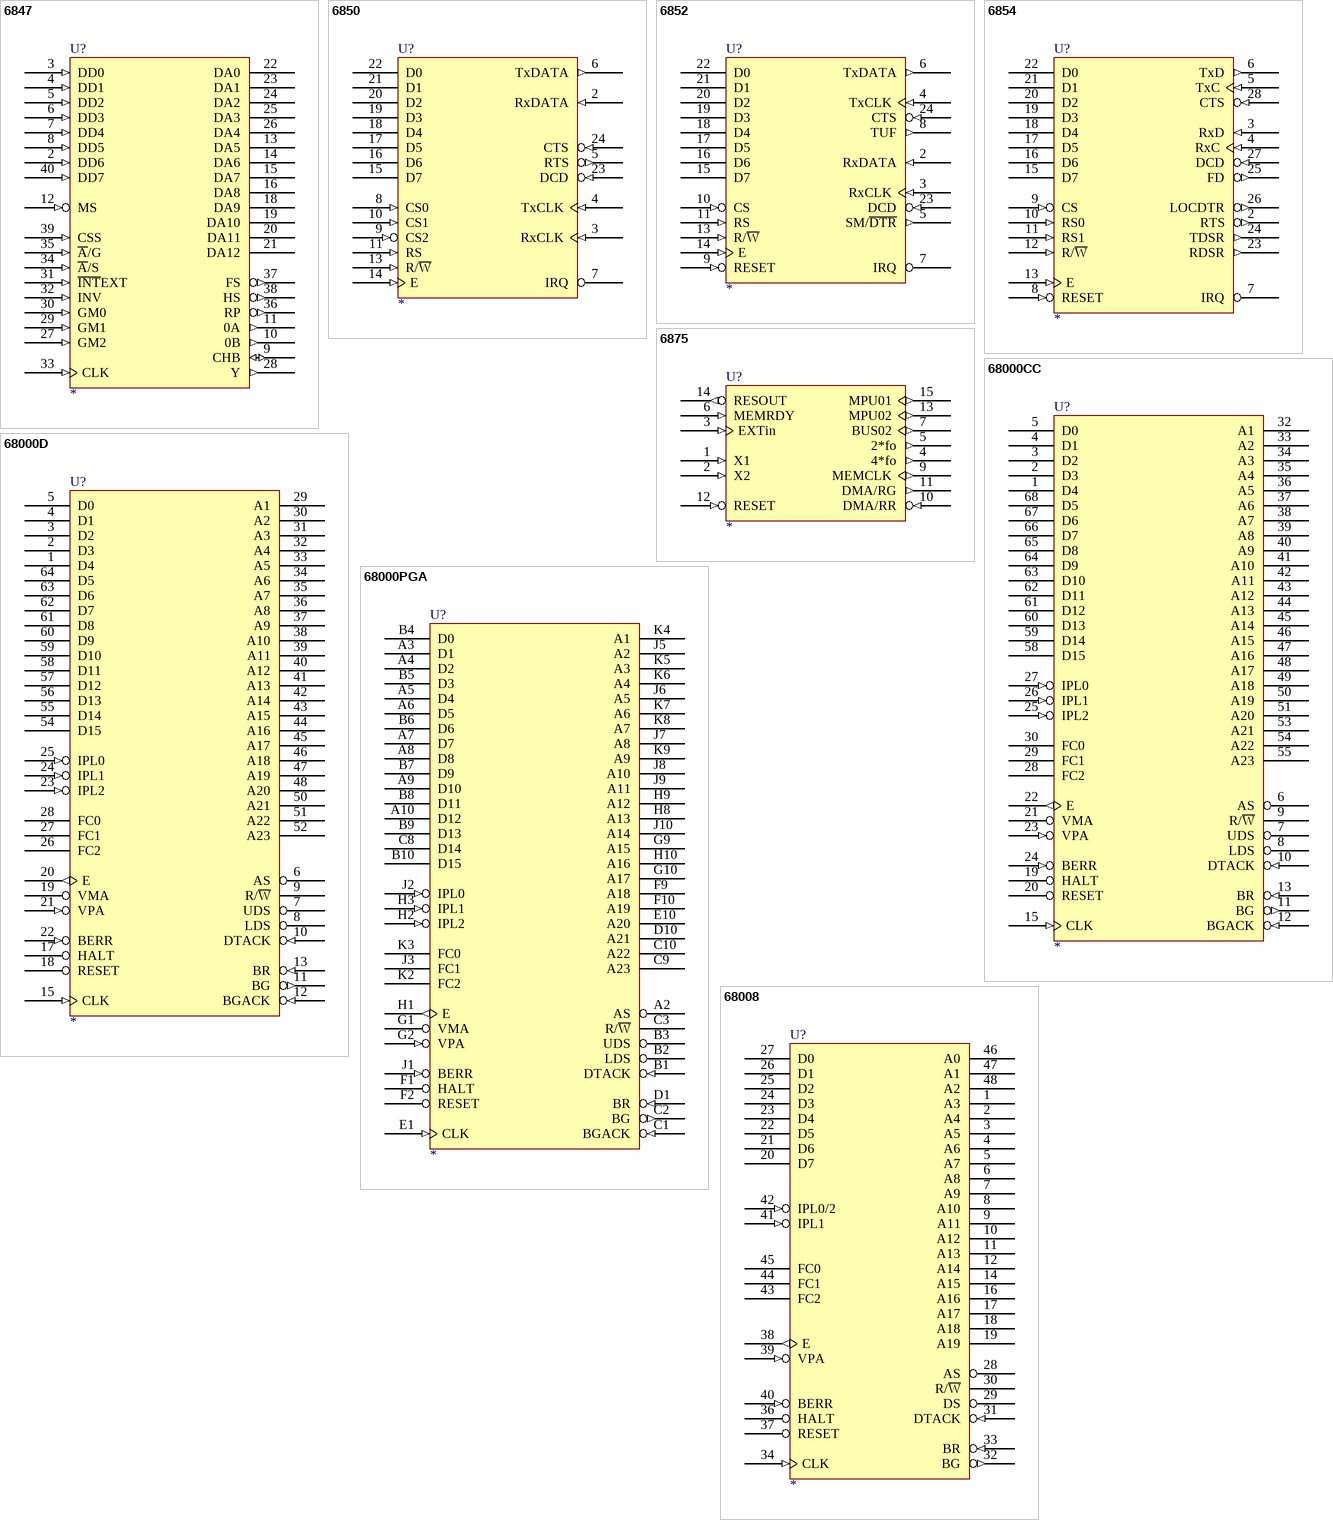
[diagram p9: symbols 6847 to 68008]

## 6847
designator U?
footprint DIP-40
pins: 1 GND (power) hidden to GND, 2 DD6 (in), 3 DD0 (in), 4 DD1 (in), 5 DD2 (in), 6 DD3 (in), 7 DD4 (in), 8 DD5 (in), 9 CHB (io), 10 0B (out), 11 0A (out), 12 MS (in), 13 DA5 (hiz), 14 DA6 (hiz), 15 DA7 (hiz), 16 DA8 (hiz), 17 VCC (power) hidden to VCC, 18 DA9 (hiz), 19 DA10 (hiz), 20 DA11 (hiz), 21 DA12 (hiz), 22 DA0 (hiz), 23 DA1 (hiz), 24 DA2 (hiz), 25 DA3 (hiz), 26 DA4 (hiz), 27 GM2 (in), 28 Y (out), 29 GM1 (in), 30 GM0 (in), 31 ~{INT}EXT (in), 32 INV (in), 33 CLK (in), 34 ~{A}/S (in), 35 ~{A}/G (in), 36 RP (out), 37 FS (out), 38 HS (out), 39 CSS (in), 40 DD7 (in)

## 6850
designator U?
footprint DIP-24
pins: 1 GND (power) hidden to GND, 2 RxDATA (in), 3 RxCLK (in), 4 TxCLK (in), 5 RTS (out), 6 TxDATA (out), 7 IRQ (oc), 8 CS0 (in), 9 CS2 (in), 10 CS1 (in), 11 RS (in), 12 VCC (power) hidden to VCC, 13 R/~{W} (in), 14 E (in), 15 D7 (hiz), 16 D6 (hiz), 17 D5 (hiz), 18 D4 (hiz), 19 D3 (hiz), 20 D2 (hiz), 21 D1 (hiz), 22 D0 (hiz), 23 DCD (in), 24 CTS (in)

## 6852
designator U?
footprint DIP-24
pins: 1 GND (power) hidden to GND, 2 RxDATA (in), 3 RxCLK (in), 4 TxCLK (in), 5 SM/~{DTR} (out), 6 TxDATA (out), 7 IRQ (oc), 8 TUF (out), 9 RESET (in), 10 CS (in), 11 RS (in), 12 VCC (power) hidden to VCC, 13 R/~{W} (in), 14 E (in), 15 D7 (hiz), 16 D6 (hiz), 17 D5 (hiz), 18 D4 (hiz), 19 D3 (hiz), 20 D2 (hiz), 21 D1 (hiz), 22 D0 (hiz), 23 DCD (in), 24 CTS (in)

## 6854
designator U?
footprint DIP-28
pins: 1 GND (power) hidden to GND, 2 RTS (out), 3 RxD (in), 4 RxC (in), 5 TxC (in), 6 TxD (out), 7 IRQ (oc), 8 RESET (in), 9 CS (in), 10 RS0 (in), 11 RS1 (in), 12 R/~{W} (in), 13 E (in), 14 VCC (power) hidden to VCC, 15 D7 (hiz), 16 D6 (hiz), 17 D5 (hiz), 18 D4 (hiz), 19 D3 (hiz), 20 D2 (hiz), 21 D1 (hiz), 22 D0 (hiz), 23 RDSR (out), 24 TDSR (out), 25 FD (out), 26 LOCDTR (out), 27 DCD (in), 28 CTS (in)

## 6875
designator U?
footprint DIP-16
pins: 1 X1 (in), 2 X2 (in), 3 EXTin (in), 4 4*fo (out), 5 2*fo (out), 6 MEMRDY (in), 7 BUS02 (out), 8 GND (power) hidden to GND, 9 MEMCLK (out), 10 DMA/RR (in), 11 DMA/RG (out), 12 RESET (in), 13 MPU02 (out), 14 RESOUT (out), 15 MPU01 (out), 16 VCC (power) hidden to VCC